# Altium schematic symbol library разъёмы.SchLib: 135 symbols (part 1 of 2)
Pins are listed as number, name and electrical type; pins without a type are passive.

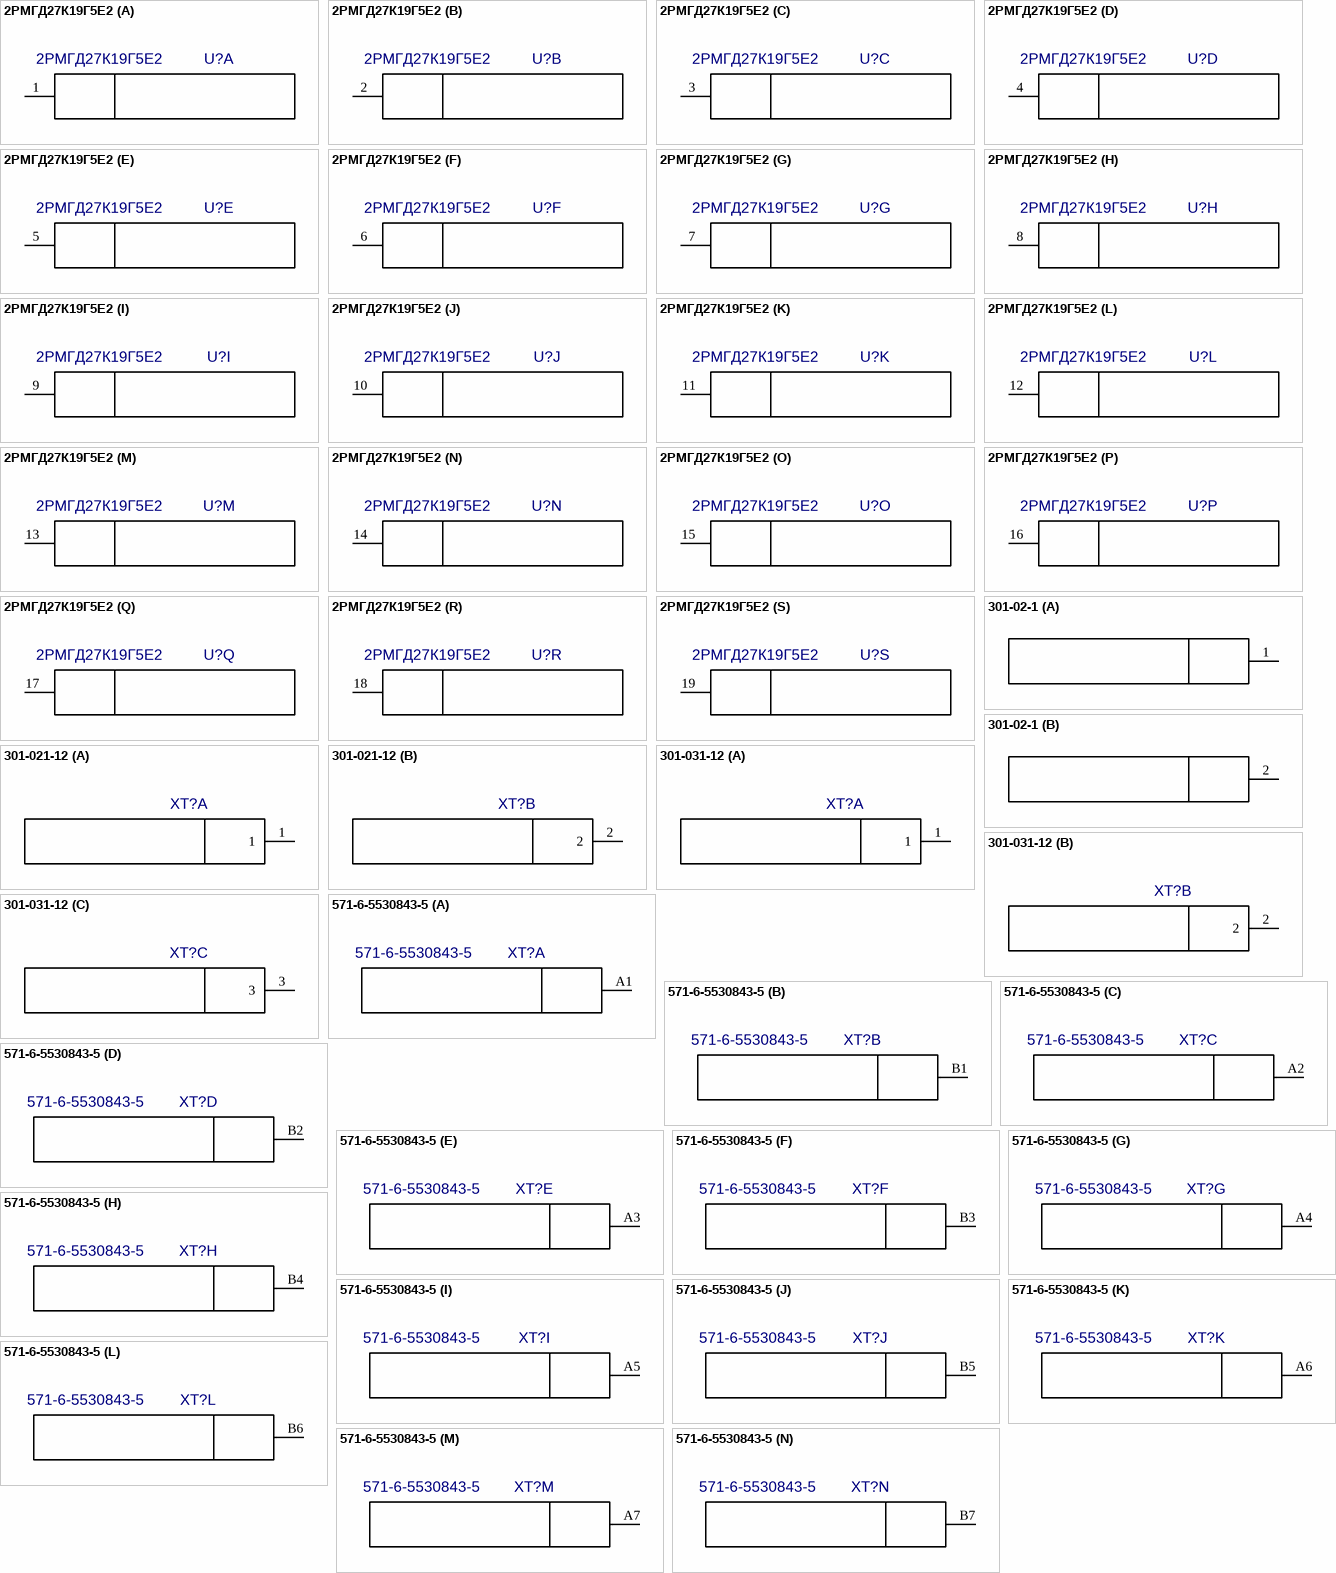
[diagram p0: symbols 2РМГД27К19Г5Е2 to 571-6-5530843-5]

## 2РМГД27К19Г5Е2
designator U?
Value: *
part A pins: 1
part B pins: 2
part C pins: 3
part D pins: 4
part E pins: 5
part F pins: 6
part G pins: 7
part H pins: 8
part I pins: 9
part J pins: 10
part K pins: 11
part L pins: 12
part M pins: 13
part N pins: 14
part O pins: 15
part P pins: 16
part Q pins: 17
part R pins: 18
part S pins: 19

## 301-02-1
designator XT?  (value not drawn)
Value: *
footprint 301-02-1
part A pins: 1
part B pins: 2

## 301-021-12
designator XT?, comment XY301VA-5.0-2P-12  (value not drawn)
Клеммник винтовой, 2-контактный, 5мм, прямой; Value: XY301VA-5.0-2P-12
footprint 301-021-12 (XY301VA-5.0-2P-12, Клеммник винтовой, 2-контактный, 5мм, прямой)
part A pins: 1
part B pins: 2

## 301-031-12
designator XT?, comment XY301VA-5.0-3P-12  (value not drawn)
Клеммник винтовой, 3-контактный, 5мм, прямой; Value: *
footprint 301-031-12 (XY301VA-5.0-3P-12, Клеммник винтовой, 3-контактный, 5мм, прямой)
part A pins: 1
part B pins: 2
part C pins: 3

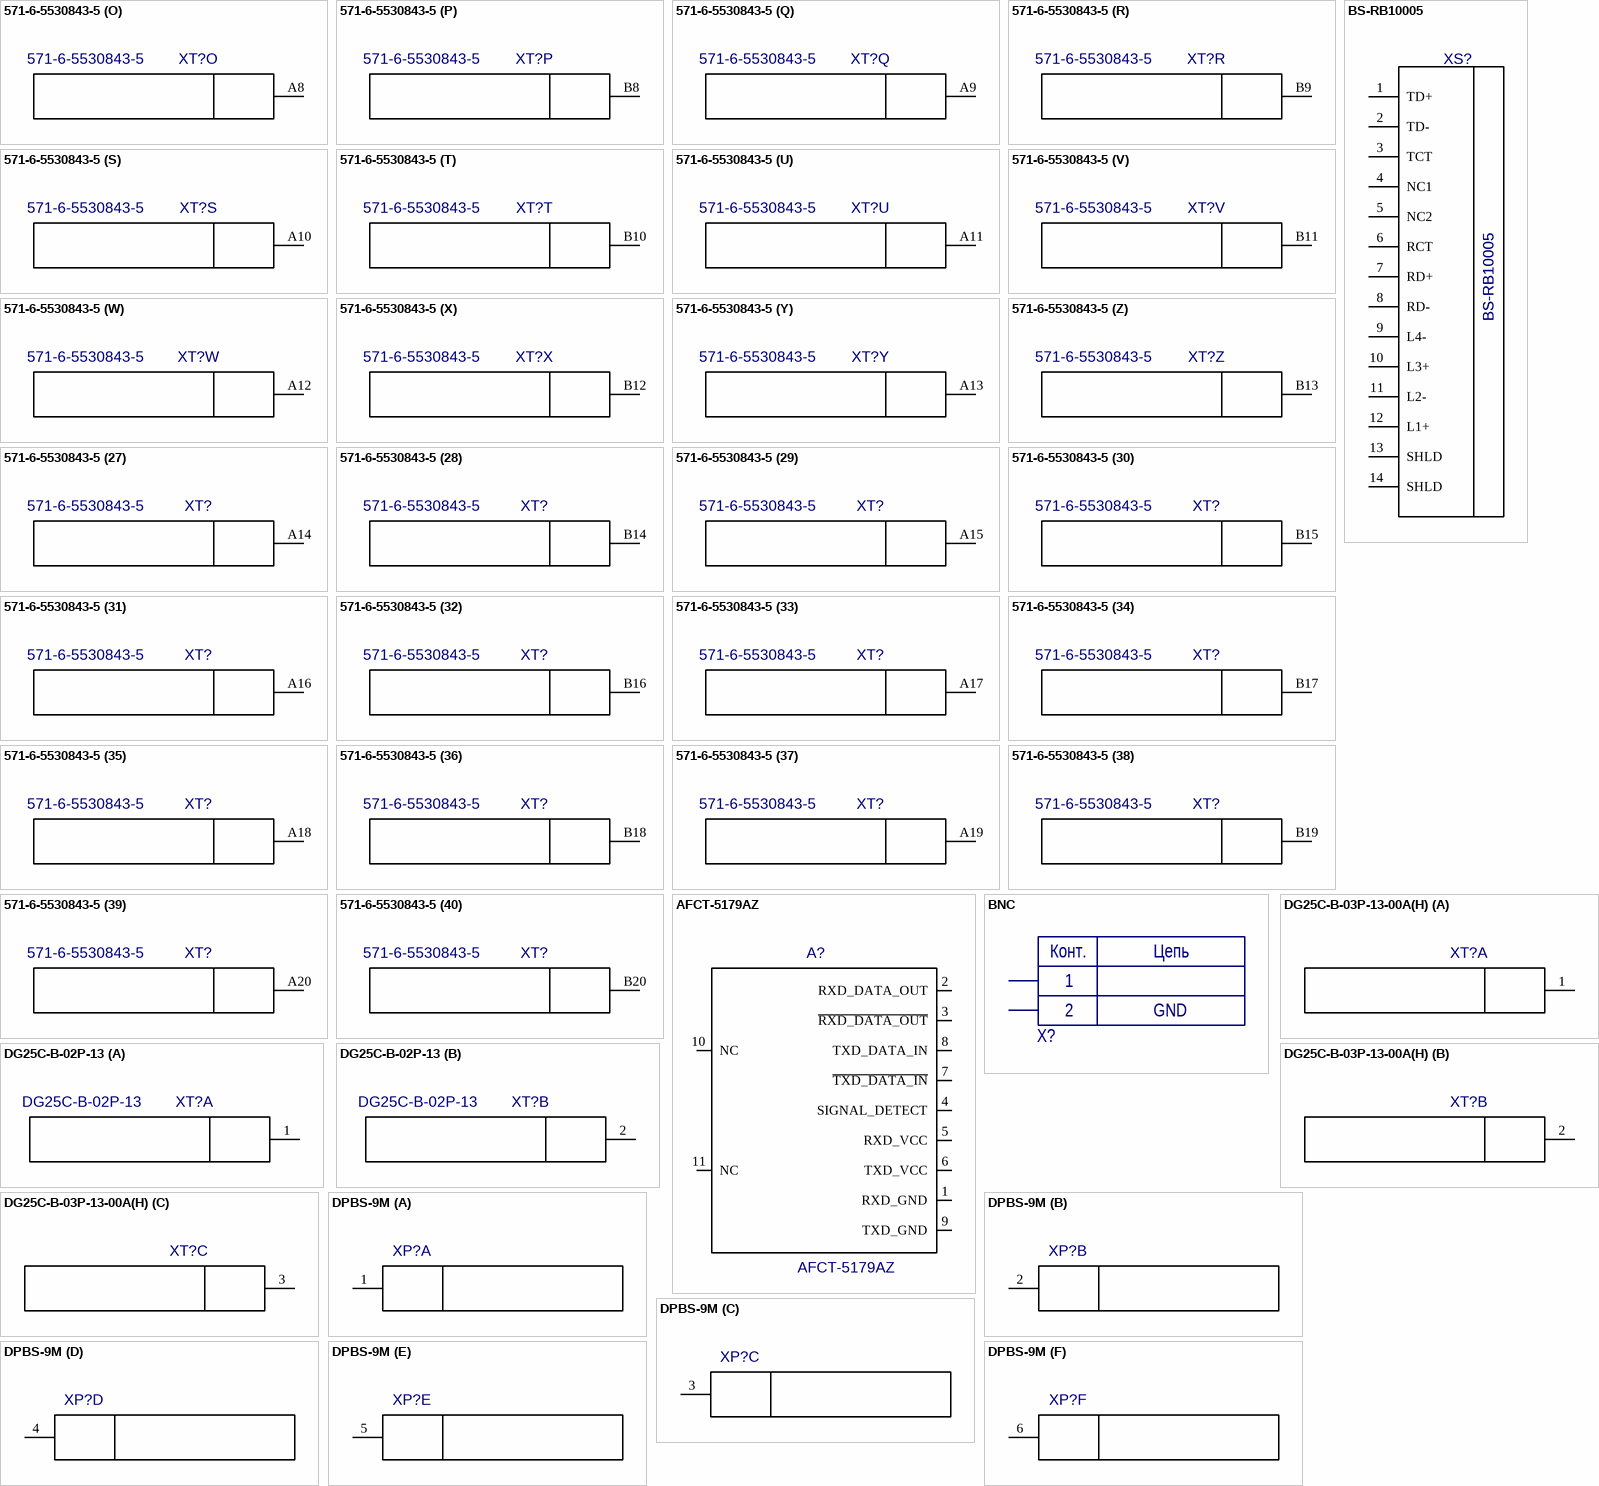
[diagram p1: symbols 571-6-5530843-5 to DPBS-9M]

## 571-6-5530843-5
designator XT?
Value: *
footprint 571-6-5530843-5
part A pins: A1
part B pins: B1
part C pins: A2
part D pins: B2
part E pins: A3
part F pins: B3
part G pins: A4
part H pins: B4
part I pins: A5
part J pins: B5
part K pins: A6
part L pins: B6
part M pins: A7
part N pins: B7
part O pins: A8
part P pins: B8
part Q pins: A9
part R pins: B9
part S pins: A10
part T pins: B10
part U pins: A11
part V pins: B11
part W pins: A12
part X pins: B12
part Y pins: A13
part Z pins: B13
part 27 pins: A14
part 28 pins: B14
part 29 pins: A15
part 30 pins: B15
part 31 pins: A16
part 32 pins: B16
part 33 pins: A17
part 34 pins: B17
part 35 pins: A18
part 36 pins: B18
part 37 pins: A19
part 38 pins: B19
part 39 pins: A20
part 40 pins: B20
part 41 pins: A21
part 42 pins: B21
part 43 pins: A22
part 44 pins: B22
part 45 pins: A23
part 46 pins: B23
part 47 pins: A24
part 48 pins: B24
part 49 pins: A25
part 50 pins: B25
part 51 pins: A26
part 52 pins: B26
part 53 pins: A27
part 54 pins: B27
part 55 pins: A28
part 56 pins: B28
part 57 pins: A29
part 58 pins: B29
part 59 pins: A30
part 60 pins: B30
part 61 pins: A31
part 62 pins: B31

## AFCT-5179AZ
designator A?
Value: *
footprint AFCT-5179AZ
pins: 1 RXD_GND, 2 RXD_DATA_OUT, 3 ~{RXD_DATA_OUT}, 4 SIGNAL_DETECT, 5 RXD_VCC, 6 TXD_VCC, 7 ~{TXD_DATA_IN}, 8 TXD_DATA_IN, 9 TXD_GND, 10 NC, 11 NC

## BNC
designator X?  (value not drawn)
Cell: *; Manufacturer: *; ManufacturerPartNumber: BNC; Value: *; Tolerance: *; Current: *; Voltage: *; Power: *
footprint BNC
pins: 1, 2
text: Конт.; Цепь; GND

## BS-RB10005
designator XS?
Value: BS-RB10005
footprint BS-RB10005
pins: 1 TD+, 2 TD-, 3 TCT, 4 NC1, 5 NC2, 6 RCT, 7 RD+, 8 RD-, 9 L4-, 10 L3+, 11 L2-, 12 L1+, 13 SHLD, 14 SHLD, 15 hidden, 16 hidden

## DG25C-B-02P-13
designator XT?
Value: *
footprint DG25C-B-02P-13
part A pins: 1
part B pins: 2

## DG25C-B-03P-13-00A(H)
designator XT?  (value not drawn)
Value: *
footprint DG25C-B-03P-13-00A(H)
part A pins: 1
part B pins: 2
part C pins: 3

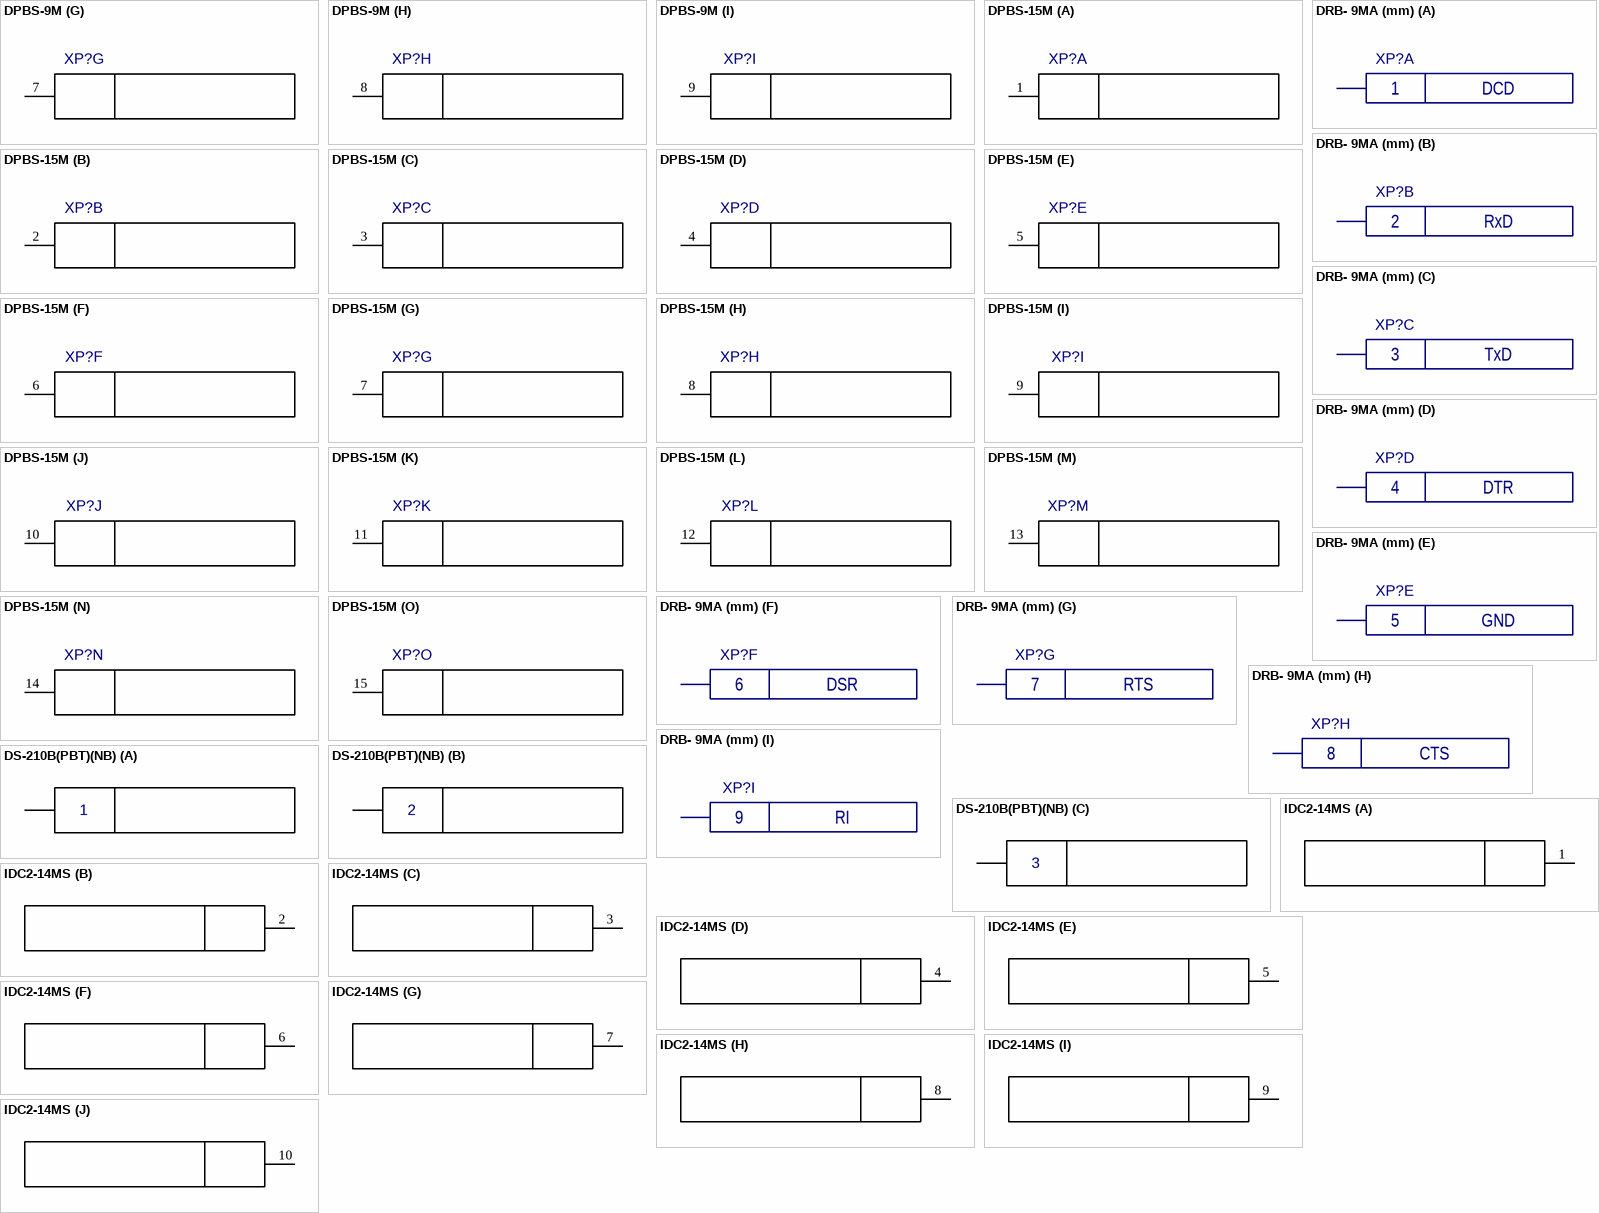
[diagram p2: symbols DPBS-9M to IDC2-14MS]

## DPBS-9M
designator XP?  (value not drawn)
Value: *
footprint DPBS-9M
pins on every part: Dummy1 hidden, Dummy2 hidden
part A pins: 1
part B pins: 2
part C pins: 3
part D pins: 4
part E pins: 5
part F pins: 6
part G pins: 7
part H pins: 8
part I pins: 9

## DPBS-15M
designator XP?  (value not drawn)
Value: *
footprint DPBS-15M
pins on every part: Dummy1 hidden, Dummy2 hidden
part A pins: 1
part B pins: 2
part C pins: 3
part D pins: 4
part E pins: 5
part F pins: 6
part G pins: 7
part H pins: 8
part I pins: 9
part J pins: 10
part K pins: 11
part L pins: 12
part M pins: 13
part N pins: 14
part O pins: 15

## DRB- 9MA (mm)
designator XP?, comment DRB- 9MA  (value not drawn)
Value: DRB- 9MA
footprint DRB- 9MA
pins on every part: Dummy1 hidden, Dummy2 hidden
part A pins: 1
part B pins: 2
part C pins: 3
part D pins: 4
part E pins: 5
part F pins: 6
part G pins: 7
part H pins: 8
part I pins: 9
part A text: DCD
part B text: RxD
part C text: TxD
part D text: DTR
part E text: GND
part F text: DSR
part G text: RTS
part H text: CTS
part I text: RI

## DS-210B(PBT)(NB)
designator XS?  (value not drawn)
Гнездо питания 2,1х5,5мм на панель; Value: DS-210B(PBT)(NB)
footprint DS-210B(PBT)(NB) (DS-210, Гнездо питания 2,1х5,5мм на панель)
part A pins: 1 Штыревой контакт
part B pins: 2 Размыкающийся контакт
part C pins: 3 Цилиндрич. контакт

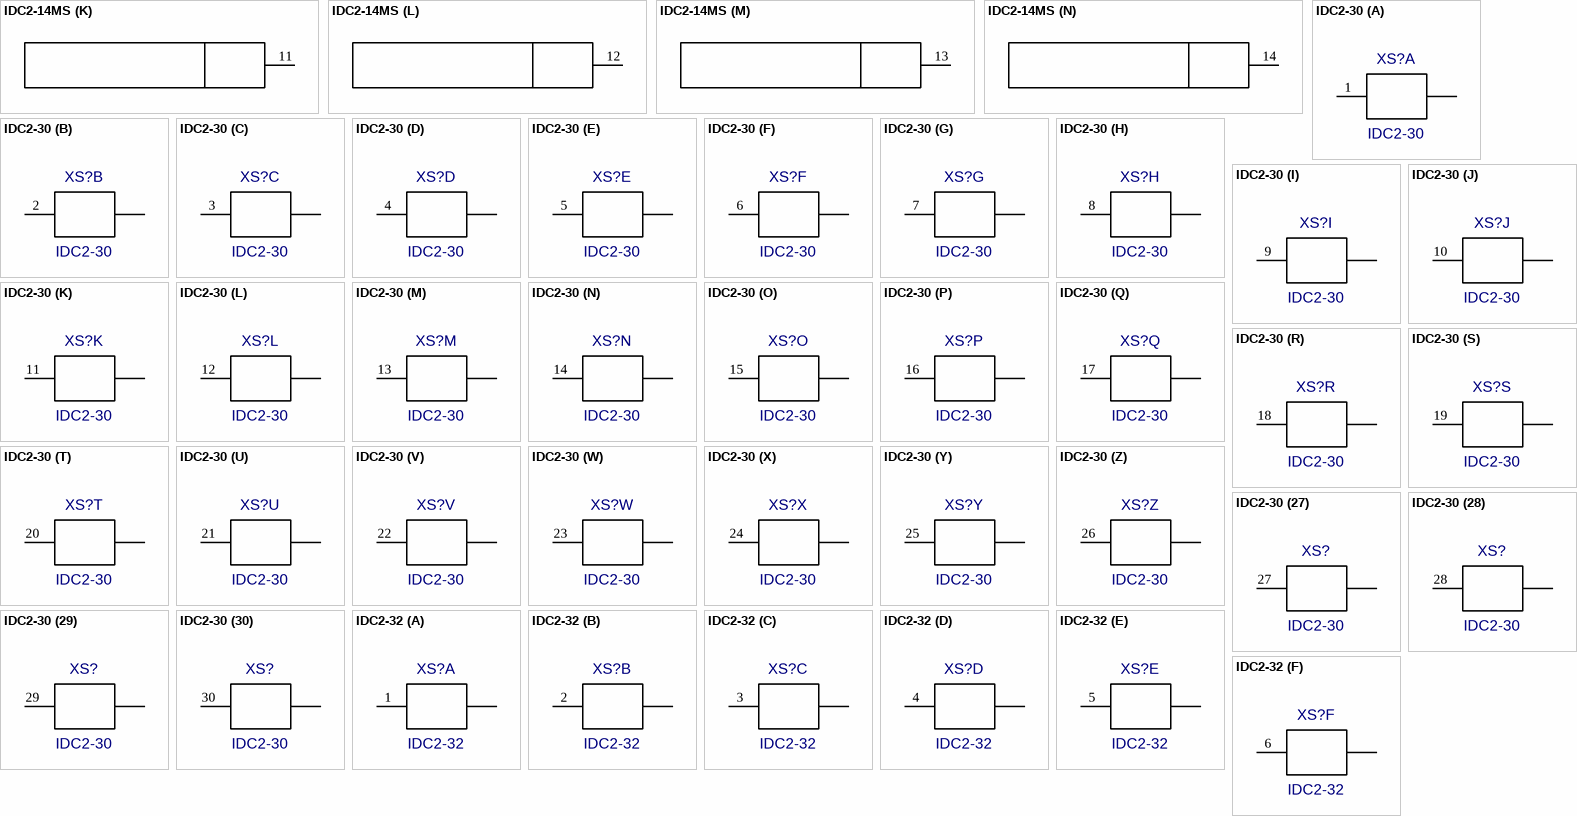
[diagram p3: symbols IDC2-14MS to IDC2-32]

## IDC2-14MS
designator XP?  (value not drawn)
2x7, шаг 2.0 мм; Value: IDC2-14MS
footprint IDC2-14MS (2x7, шаг 2.0 мм)
part A pins: 1
part B pins: 2
part C pins: 3
part D pins: 4
part E pins: 5
part F pins: 6
part G pins: 7
part H pins: 8
part I pins: 9
part J pins: 10
part K pins: 11
part L pins: 12
part M pins: 13
part N pins: 14

## IDC2-30
designator XS?
Value: *
part A pins: 1
part B pins: 2
part C pins: 3
part D pins: 4
part E pins: 5
part F pins: 6
part G pins: 7
part H pins: 8
part I pins: 9
part J pins: 10
part K pins: 11
part L pins: 12
part M pins: 13
part N pins: 14
part O pins: 15
part P pins: 16
part Q pins: 17
part R pins: 18
part S pins: 19
part T pins: 20
part U pins: 21
part V pins: 22
part W pins: 23
part X pins: 24
part Y pins: 25
part Z pins: 26
part 27 pins: 27
part 28 pins: 28
part 29 pins: 29
part 30 pins: 30

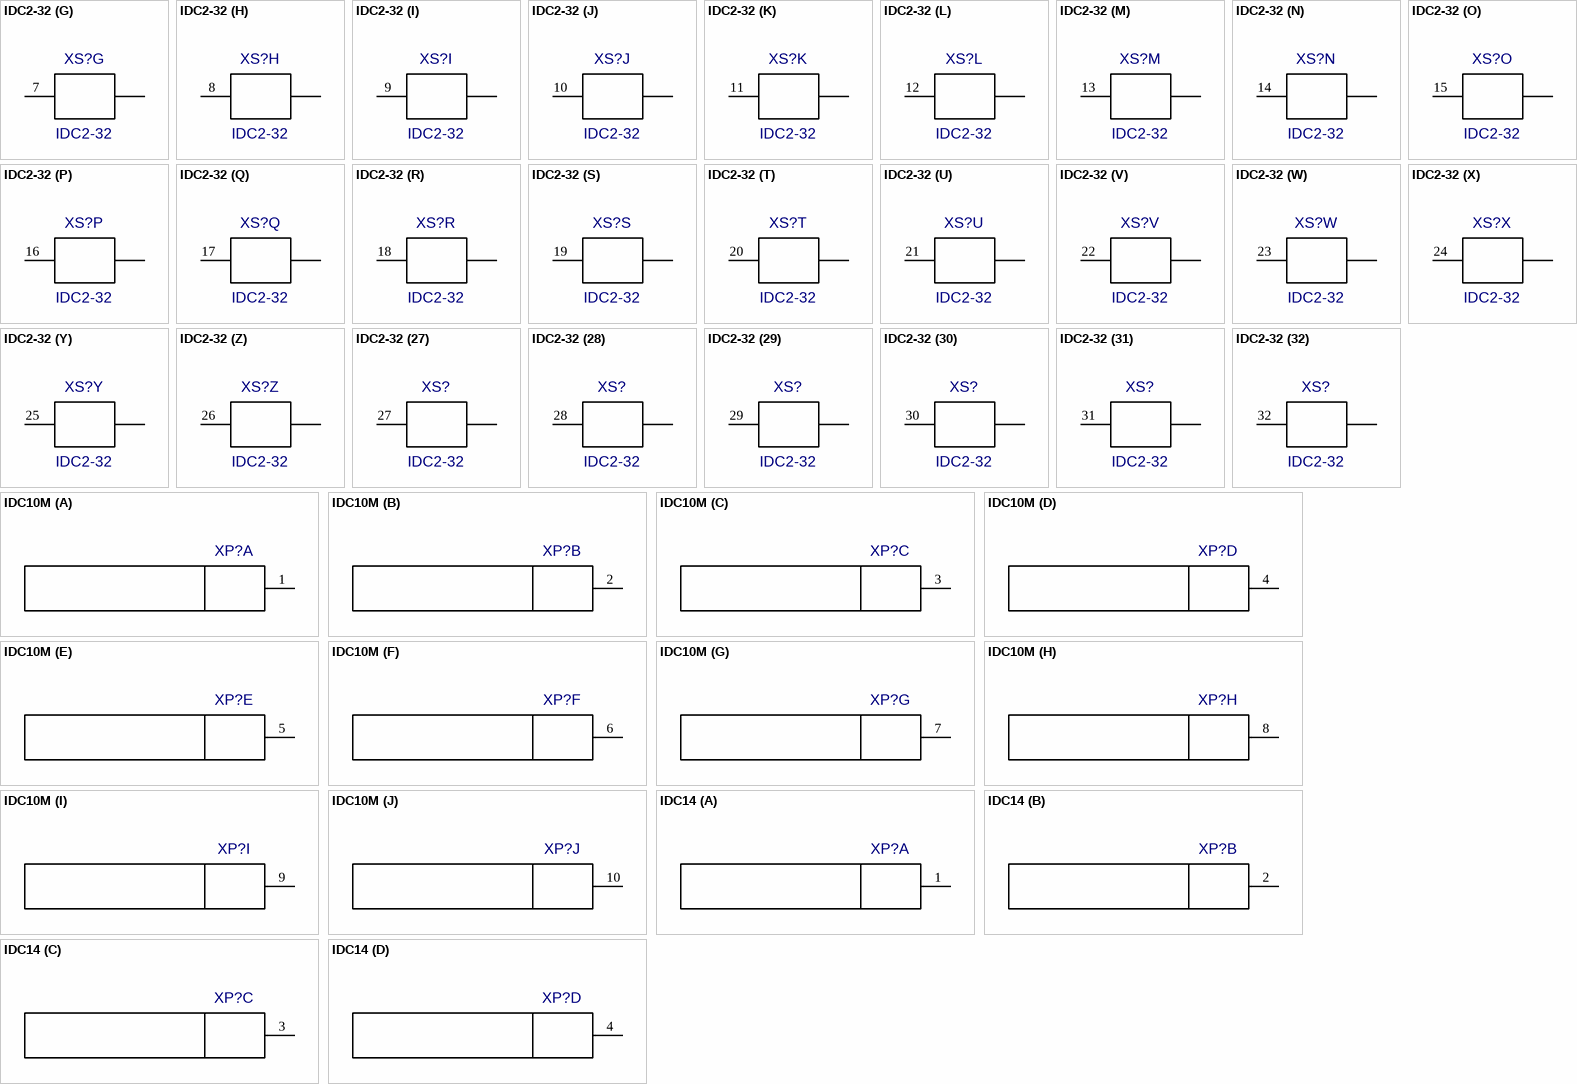
[diagram p4: symbols IDC2-32 to IDC14]

## IDC2-32
designator XS?
Value: *
part A pins: 1
part B pins: 2
part C pins: 3
part D pins: 4
part E pins: 5
part F pins: 6
part G pins: 7
part H pins: 8
part I pins: 9
part J pins: 10
part K pins: 11
part L pins: 12
part M pins: 13
part N pins: 14
part O pins: 15
part P pins: 16
part Q pins: 17
part R pins: 18
part S pins: 19
part T pins: 20
part U pins: 21
part V pins: 22
part W pins: 23
part X pins: 24
part Y pins: 25
part Z pins: 26
part 27 pins: 27
part 28 pins: 28
part 29 pins: 29
part 30 pins: 30
part 31 pins: 31
part 32 pins: 32

## IDC10M
designator XP?  (value not drawn)
Value: *
footprint IDC10M
part A pins: 1
part B pins: 2
part C pins: 3
part D pins: 4
part E pins: 5
part F pins: 6
part G pins: 7
part H pins: 8
part I pins: 9
part J pins: 10

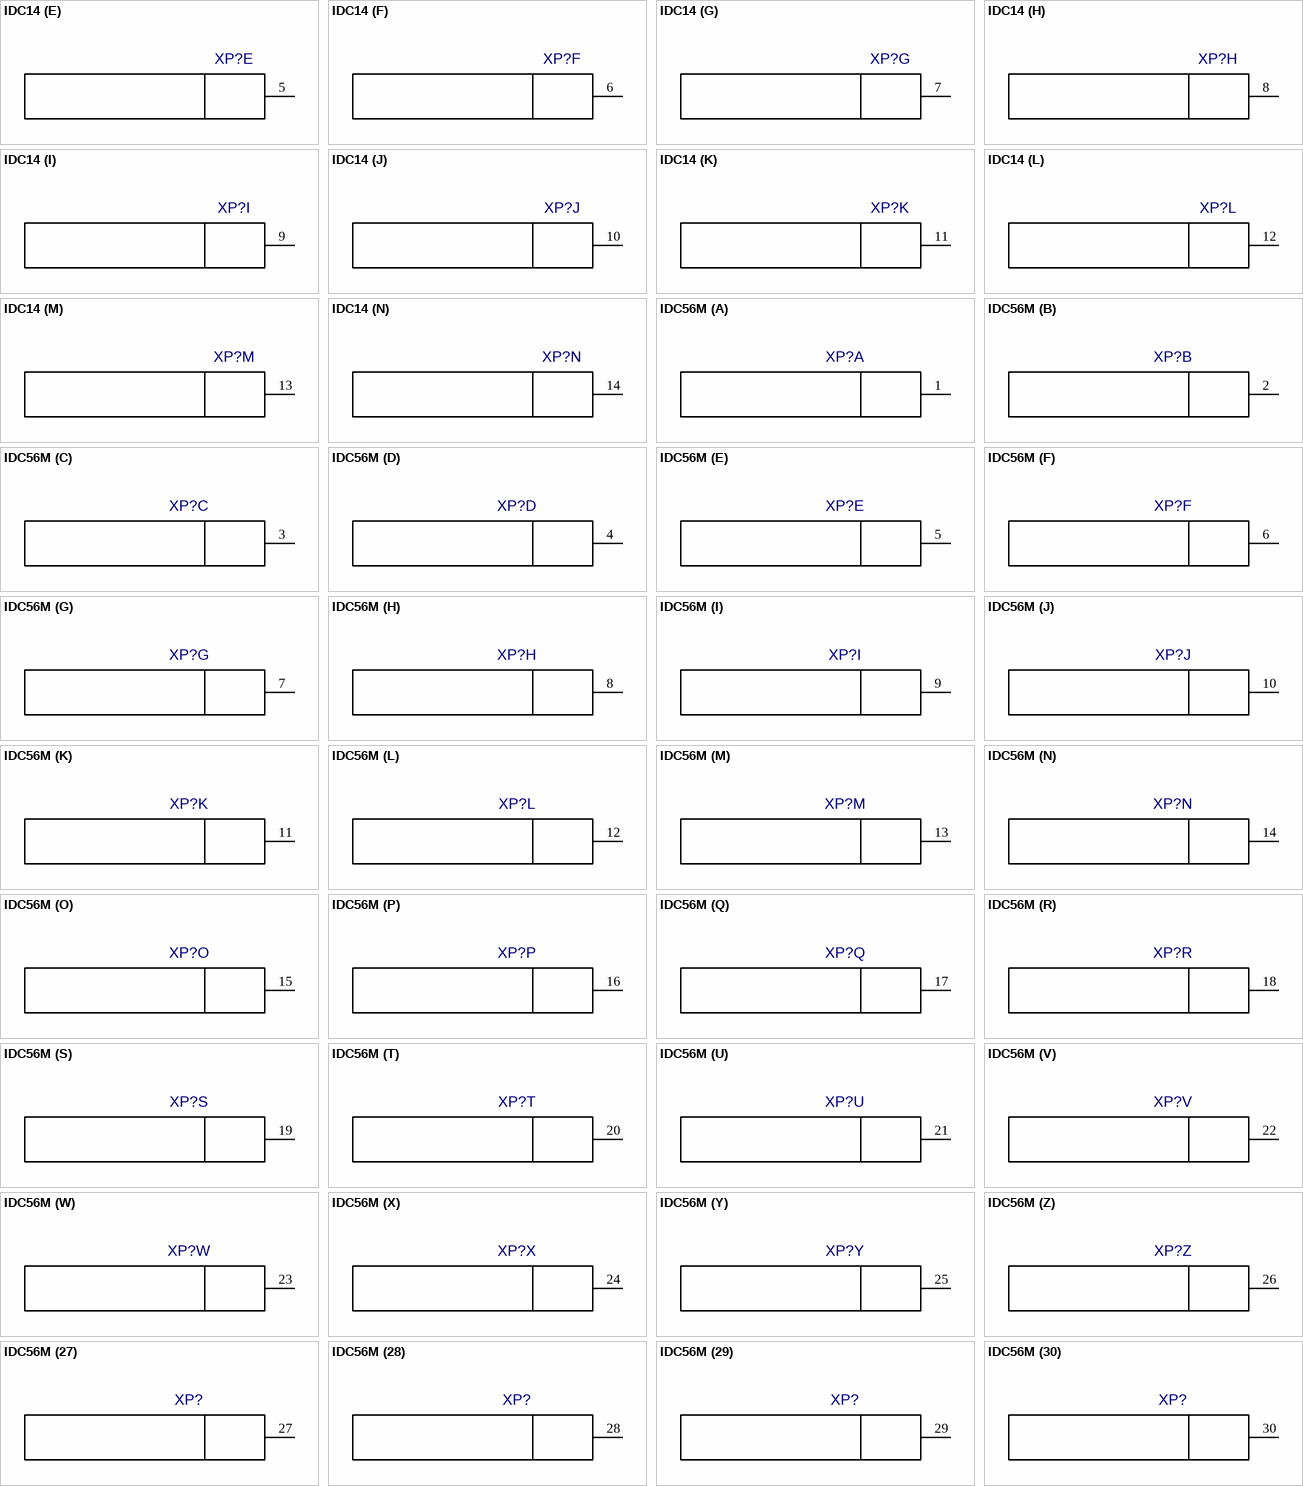
[diagram p5: symbols IDC14 to IDC56M]

## IDC14
designator XP?  (value not drawn)
Value: *
footprint IDC14M
part A pins: 1
part B pins: 2
part C pins: 3
part D pins: 4
part E pins: 5
part F pins: 6
part G pins: 7
part H pins: 8
part I pins: 9
part J pins: 10
part K pins: 11
part L pins: 12
part M pins: 13
part N pins: 14

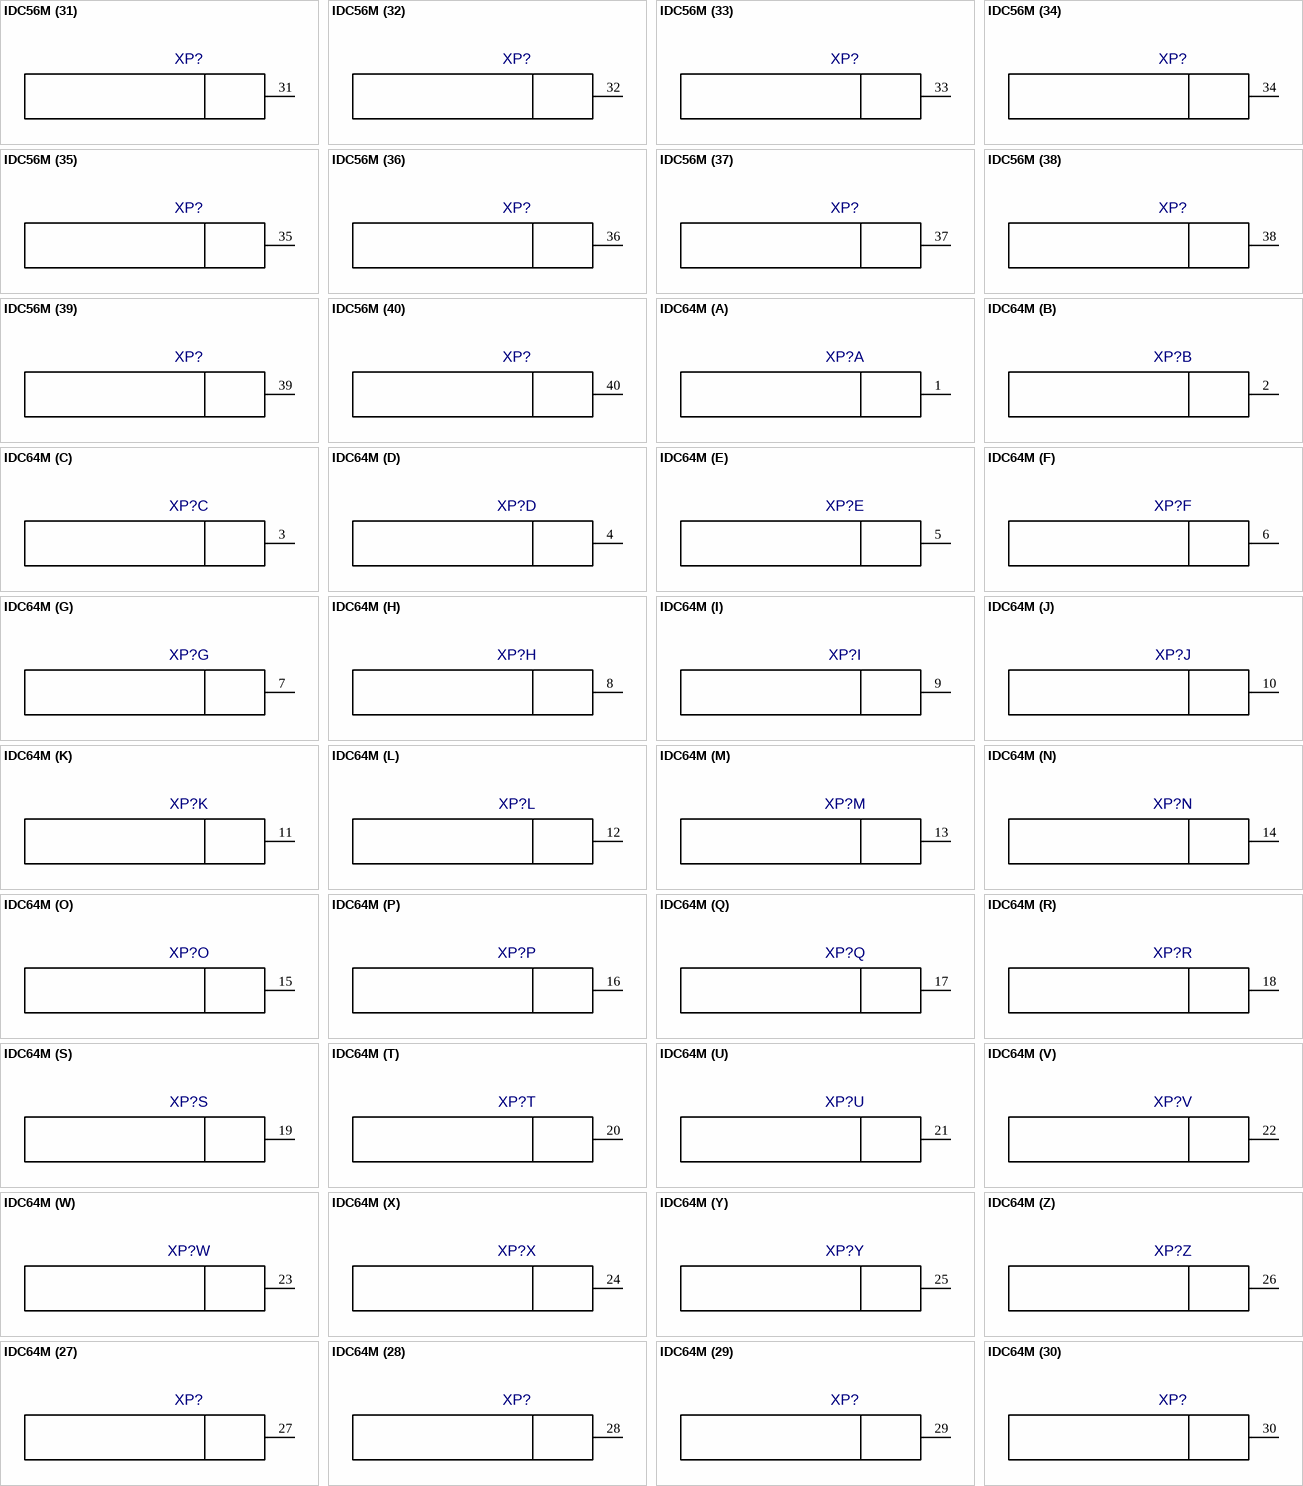
[diagram p6: symbols IDC56M to IDC64M]

## IDC56M
designator XP?  (value not drawn)
Value: *
footprint IDC56M
part A pins: 1
part B pins: 2
part C pins: 3
part D pins: 4
part E pins: 5
part F pins: 6
part G pins: 7
part H pins: 8
part I pins: 9
part J pins: 10
part K pins: 11
part L pins: 12
part M pins: 13
part N pins: 14
part O pins: 15
part P pins: 16
part Q pins: 17
part R pins: 18
part S pins: 19
part T pins: 20
part U pins: 21
part V pins: 22
part W pins: 23
part X pins: 24
part Y pins: 25
part Z pins: 26
part 27 pins: 27
part 28 pins: 28
part 29 pins: 29
part 30 pins: 30
part 31 pins: 31
part 32 pins: 32
part 33 pins: 33
part 34 pins: 34
part 35 pins: 35
part 36 pins: 36
part 37 pins: 37
part 38 pins: 38
part 39 pins: 39
part 40 pins: 40
part 41 pins: 41
part 42 pins: 42
part 43 pins: 43
part 44 pins: 44
part 45 pins: 45
part 46 pins: 46
part 47 pins: 47
part 48 pins: 48
part 49 pins: 49
part 50 pins: 50
part 51 pins: 51
part 52 pins: 52
part 53 pins: 53
part 54 pins: 54
part 55 pins: 55
part 56 pins: 56

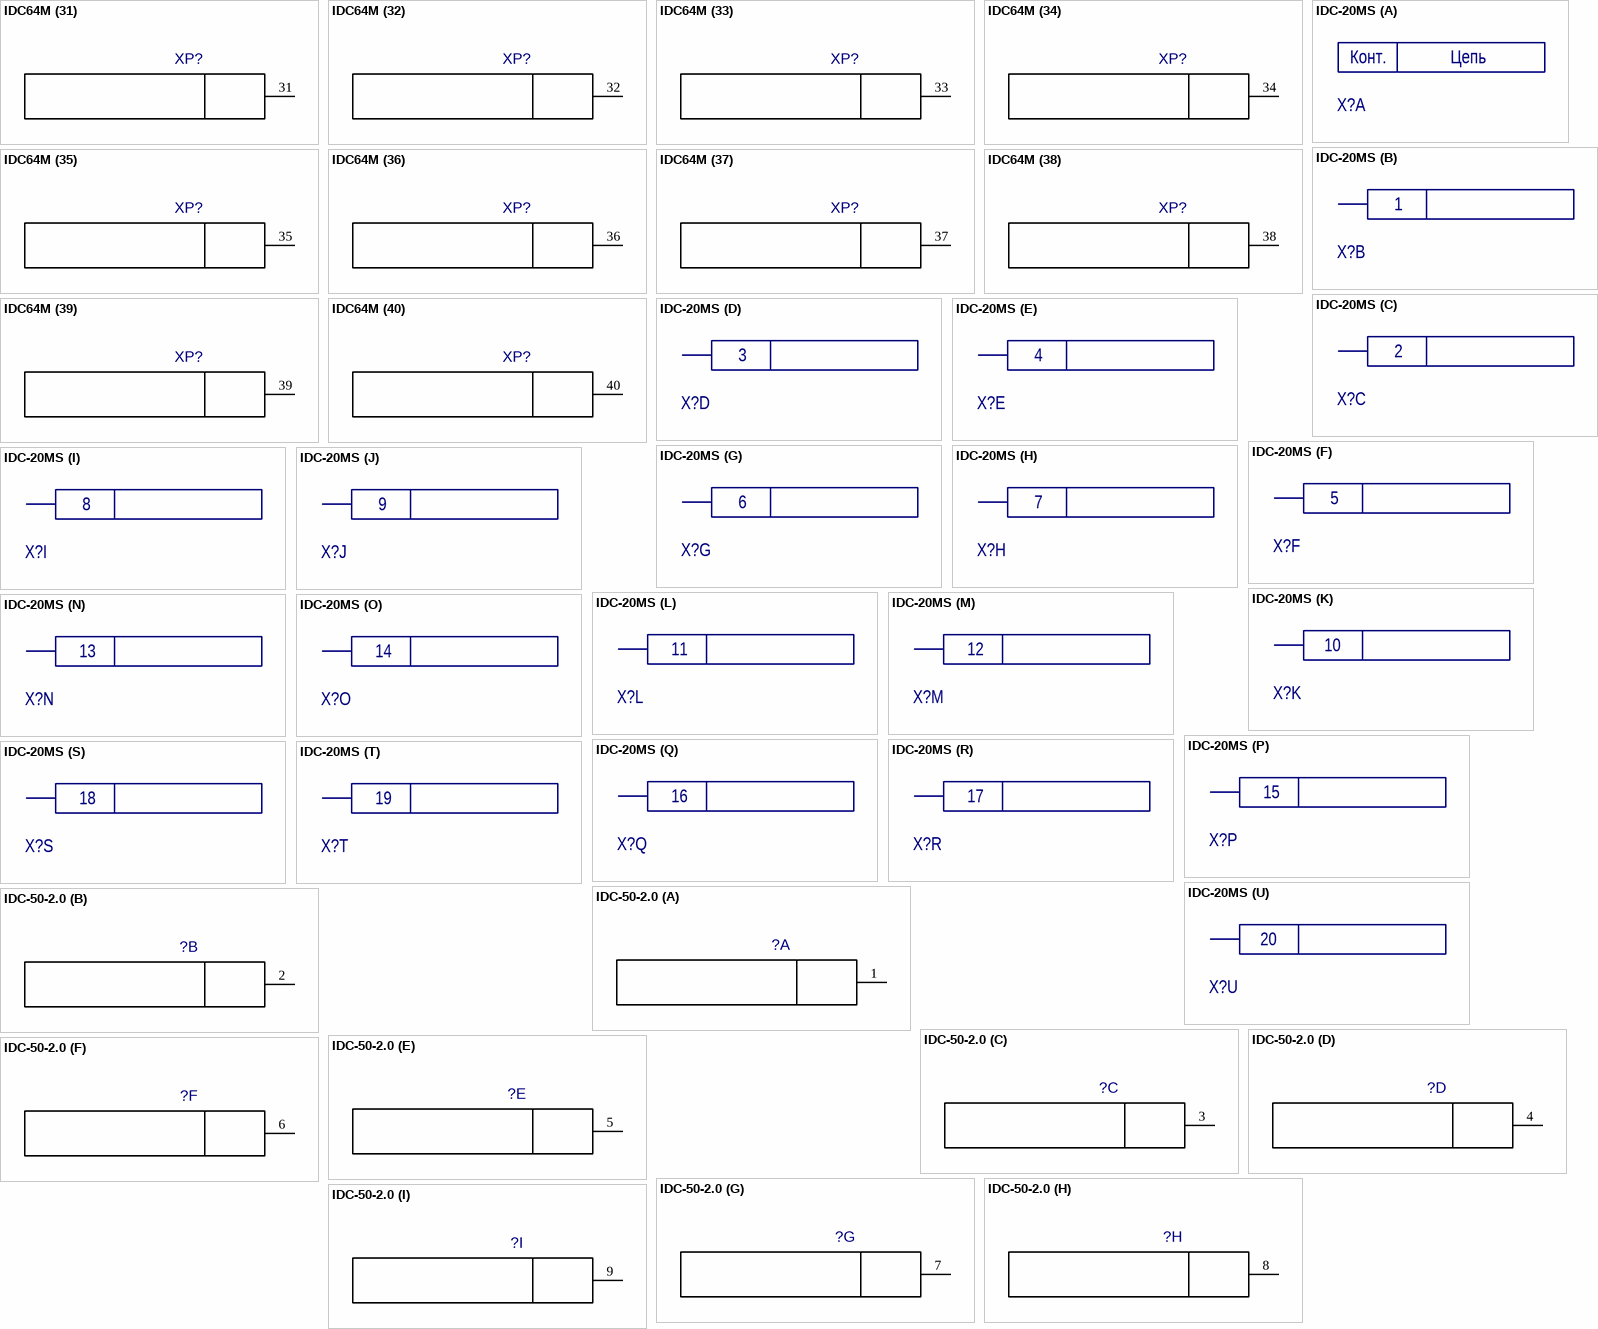
[diagram p7: symbols IDC64M to IDC-50-2.0]

## IDC64M
designator XP?  (value not drawn)
Value: *
footprint IDC64M
part A pins: 1
part B pins: 2
part C pins: 3
part D pins: 4
part E pins: 5
part F pins: 6
part G pins: 7
part H pins: 8
part I pins: 9
part J pins: 10
part K pins: 11
part L pins: 12
part M pins: 13
part N pins: 14
part O pins: 15
part P pins: 16
part Q pins: 17
part R pins: 18
part S pins: 19
part T pins: 20
part U pins: 21
part V pins: 22
part W pins: 23
part X pins: 24
part Y pins: 25
part Z pins: 26
part 27 pins: 27
part 28 pins: 28
part 29 pins: 29
part 30 pins: 30
part 31 pins: 31
part 32 pins: 32
part 33 pins: 33
part 34 pins: 34
part 35 pins: 35
part 36 pins: 36
part 37 pins: 37
part 38 pins: 38
part 39 pins: 39
part 40 pins: 40
part 41 pins: 41
part 42 pins: 42
part 43 pins: 43
part 44 pins: 44
part 45 pins: 45
part 46 pins: 46
part 47 pins: 47
part 48 pins: 48
part 49 pins: 49
part 50 pins: 50
part 51 pins: 51
part 52 pins: 52
part 53 pins: 53
part 54 pins: 54
part 55 pins: 55
part 56 pins: 56
part 57 pins: 57
part 58 pins: 58
part 59 pins: 59
part 60 pins: 60
part 61 pins: 61
part 62 pins: 62
part 63 pins: 63
part 64 pins: 64

## IDC-20MS
designator X?  (value not drawn)
Manufacturer: Connfly Electronic; Cell: *; Current: *; Power: *; Value: *; Tolerance: *; Voltage: *; ManufacturerPartNumber: IDC-20MS
footprint IDC-20MS
part A pins: 0
part B pins: 1
part C pins: 2
part D pins: 3
part E pins: 4
part F pins: 5
part G pins: 6
part H pins: 7
part I pins: 8
part J pins: 9
part K pins: 10
part L pins: 11
part M pins: 12
part N pins: 13
part O pins: 14
part P pins: 15
part Q pins: 16
part R pins: 17
part S pins: 18
part T pins: 19
part U pins: 20
part A text: Конт.; Цепь

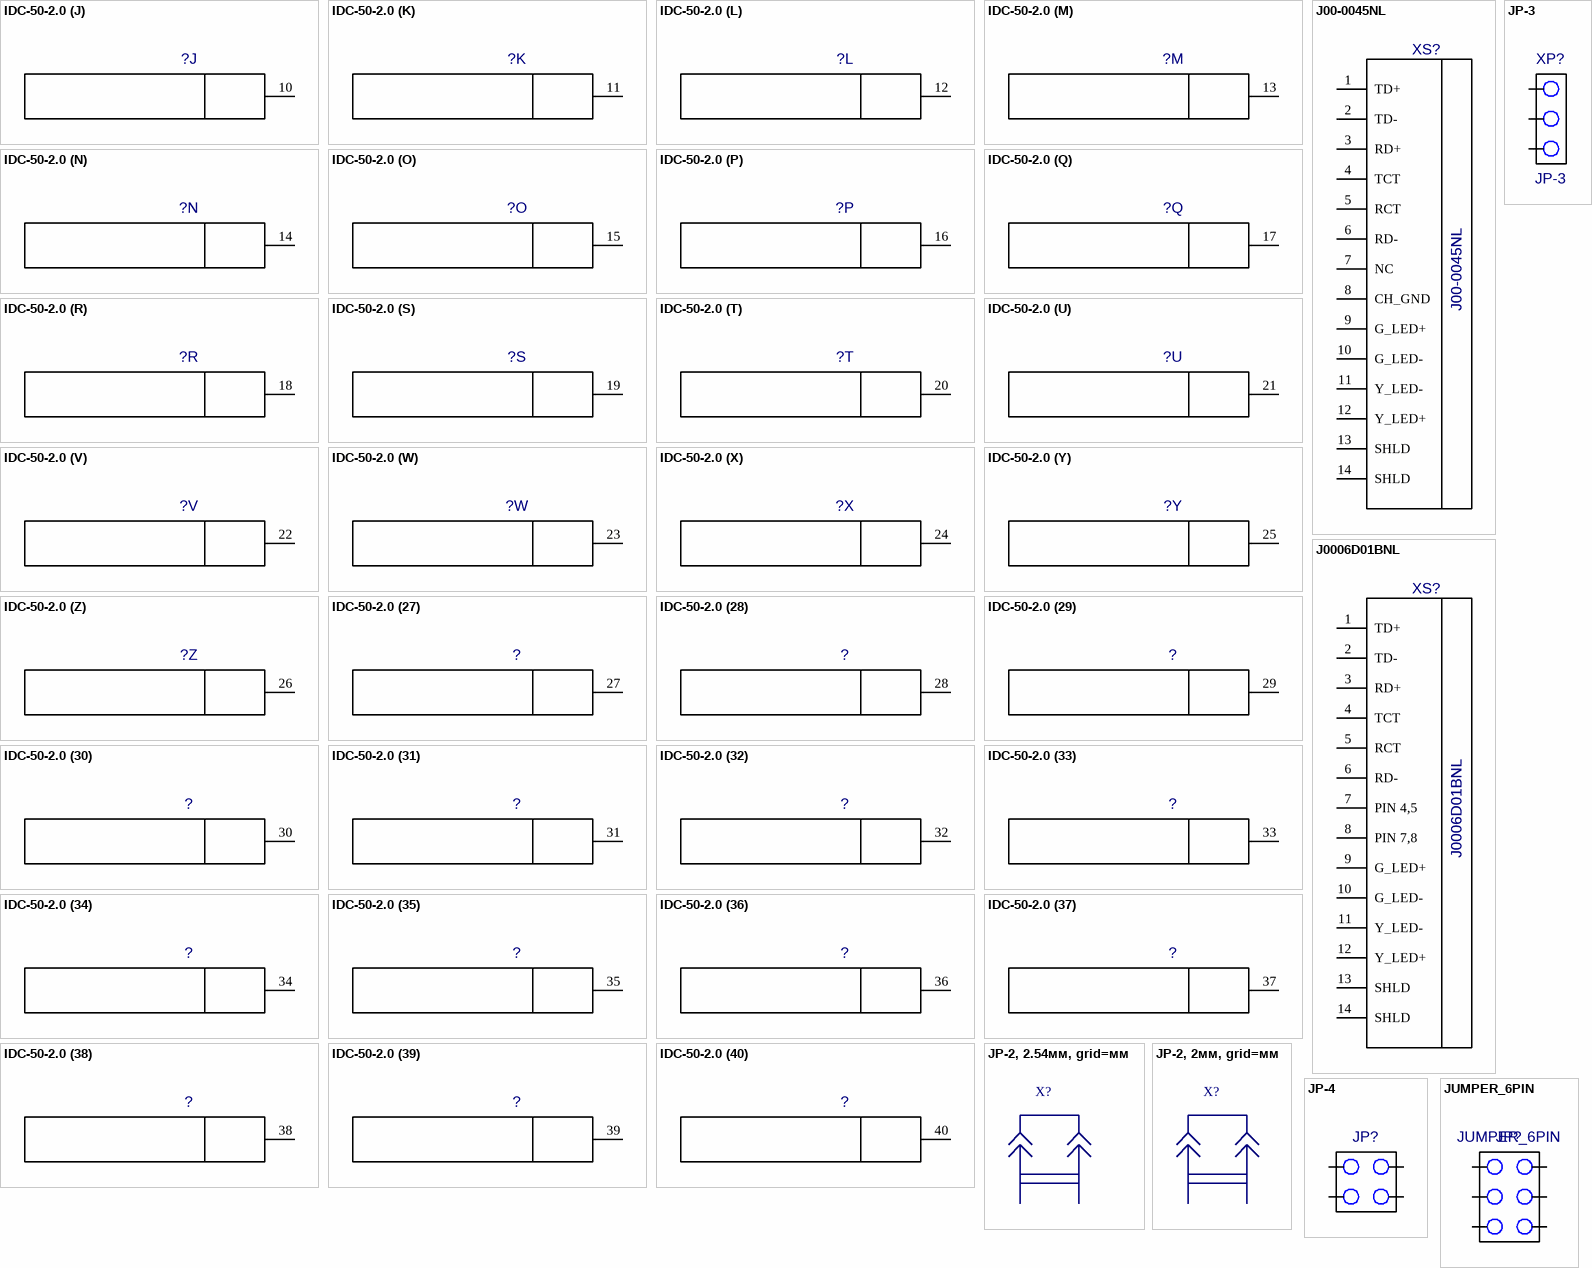
[diagram p8: symbols IDC-50-2.0 to JUMPER_6PIN]

## IDC-50-2.0
designator ?  (value not drawn)
Value: *
footprint IDC-50-2.0
part A pins: 1
part B pins: 2
part C pins: 3
part D pins: 4
part E pins: 5
part F pins: 6
part G pins: 7
part H pins: 8
part I pins: 9
part J pins: 10
part K pins: 11
part L pins: 12
part M pins: 13
part N pins: 14
part O pins: 15
part P pins: 16
part Q pins: 17
part R pins: 18
part S pins: 19
part T pins: 20
part U pins: 21
part V pins: 22
part W pins: 23
part X pins: 24
part Y pins: 25
part Z pins: 26
part 27 pins: 27
part 28 pins: 28
part 29 pins: 29
part 30 pins: 30
part 31 pins: 31
part 32 pins: 32
part 33 pins: 33
part 34 pins: 34
part 35 pins: 35
part 36 pins: 36
part 37 pins: 37
part 38 pins: 38
part 39 pins: 39
part 40 pins: 40
part 41 pins: 41
part 42 pins: 42
part 43 pins: 43
part 44 pins: 44
part 45 pins: 45
part 46 pins: 46
part 47 pins: 47
part 48 pins: 48
part 49 pins: 49
part 50 pins: 50

## J00-0045NL
designator XS?
Value: J00-0045NL
footprint J00-0045NL
pins: 1 TD+, 2 TD-, 3 RD+, 4 TCT, 5 RCT, 6 RD-, 7 NC, 8 CH_GND, 9 G_LED+, 10 G_LED-, 11 Y_LED-, 12 Y_LED+, 13 SHLD, 14 SHLD, 15 hidden, 16 hidden

## J0006D01BNL
designator XS?
Value: J0006D01BNL
footprint J00-0045NL
pins: 1 TD+, 2 TD-, 3 RD+, 4 TCT, 5 RCT, 6 RD-, 7 PIN 4,5, 8 PIN 7,8, 9 G_LED+, 10 G_LED-, 11 Y_LED-, 12 Y_LED+, 13 SHLD, 14 SHLD, 15 hidden, 16 hidden

## JP-2, 2.54мм, grid=мм
designator X?  (value not drawn)
Value: *
footprint JP-2, 2.54 мм (Перемычка PLS-2 с джампером)
pins: 1 hidden, 1, 2 hidden, 2

## JP-2, 2мм, grid=мм
designator X?  (value not drawn)
Value: *
footprint JP-2, 2 мм (Перемычка PLS2-2 с джампером)
pins: 1 hidden, 1, 2 hidden, 2

## JP-3
designator XP?
Value: *
footprint PLS-3
pins: 1, 2, 3

## JP-4
designator JP?  (value not drawn)
Value: *
footprint JP-4
pins: 1, 2, 3, 4

## JUMPER_6PIN
designator JP?
Value: *
footprint JMP_6PIN
pins: 1, 2, 3, 4, 5, 6

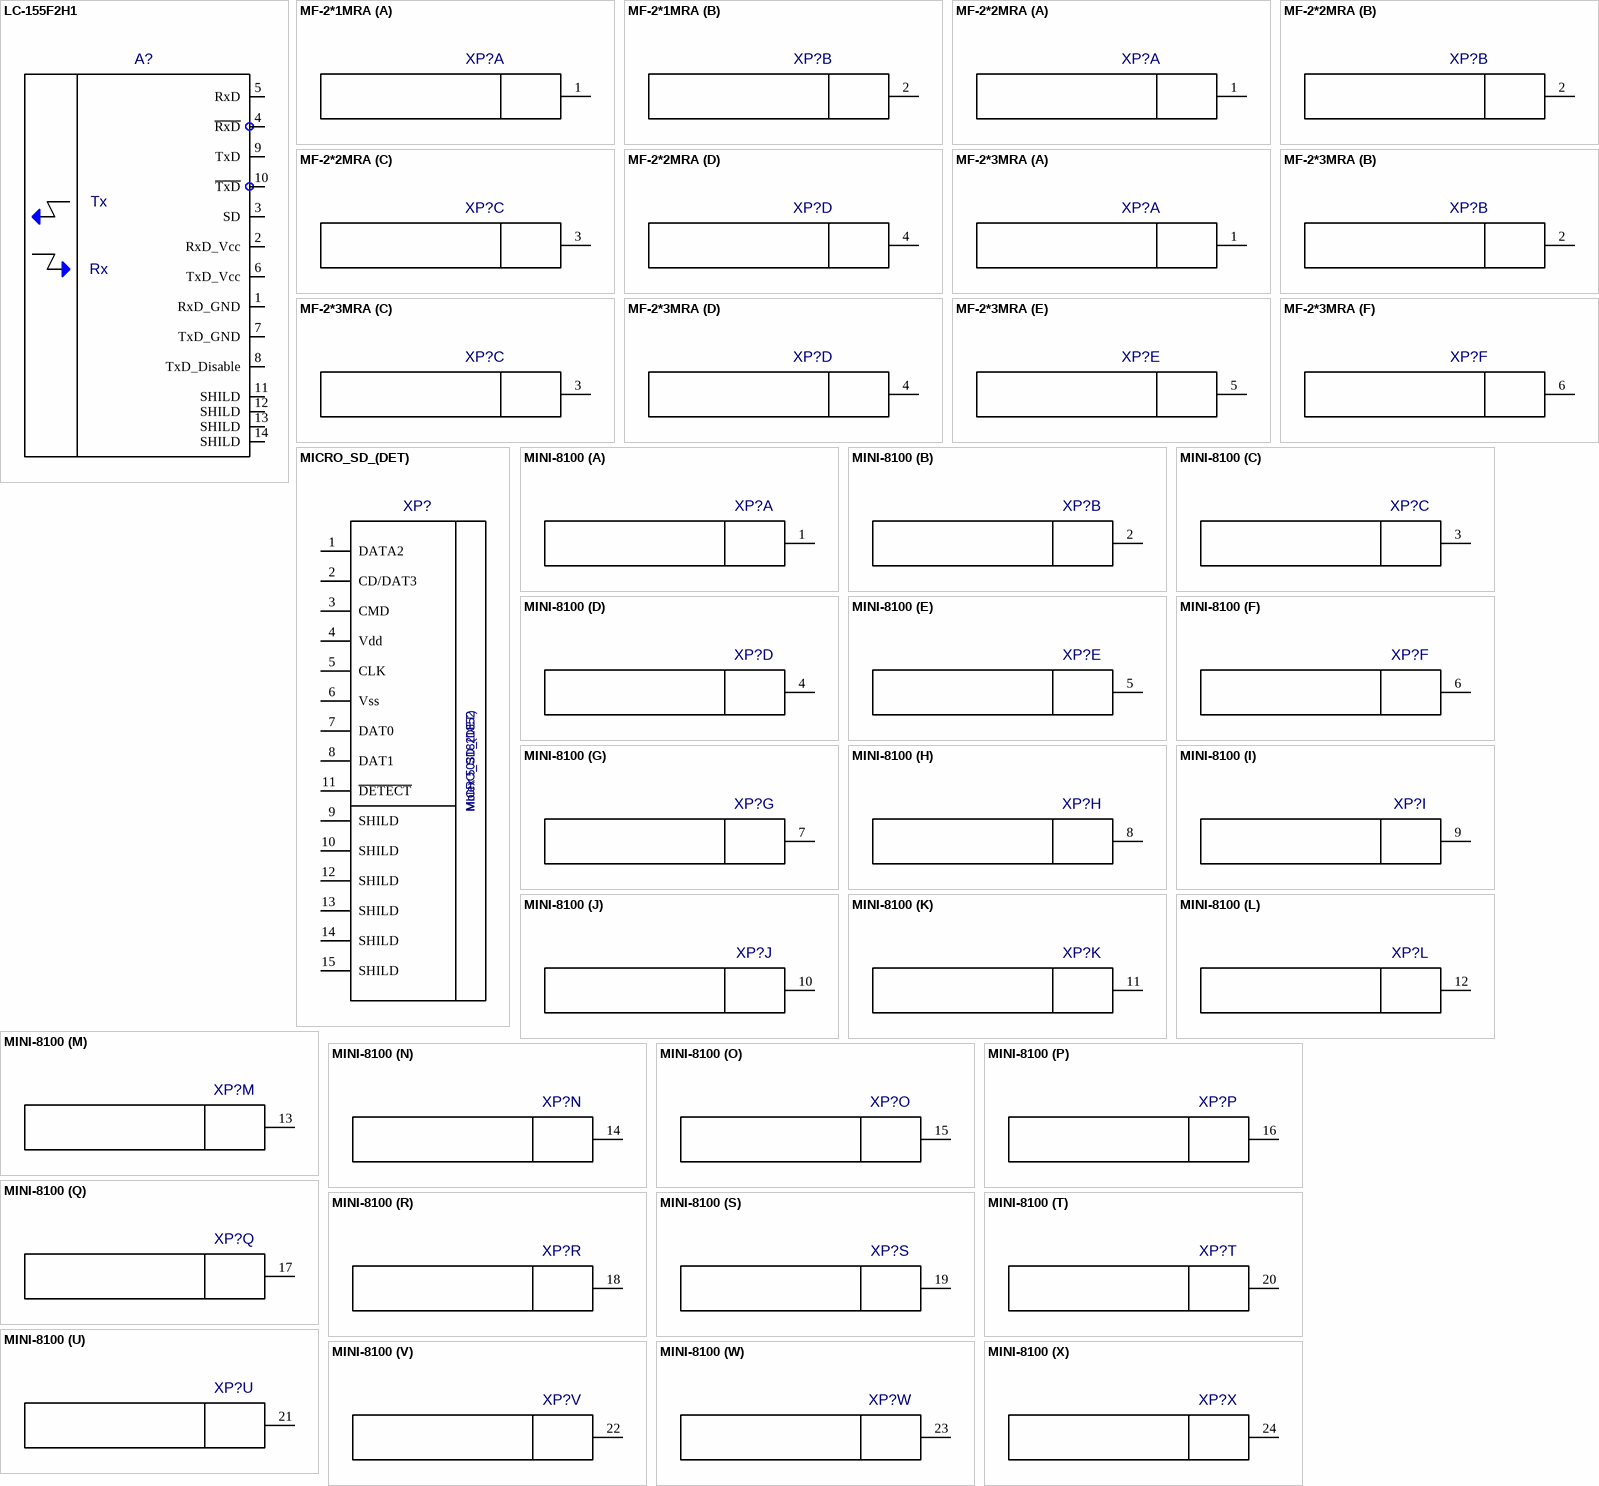
[diagram p9: symbols LC-155F2H1 to MINI-8100]

## LC-155F2H1
designator A?  (value not drawn)
Value: *
footprint LC-155F2H1
pins: 1 RxD_GND, 2 RxD_Vcc, 3 SD, 4 ~{RxD}, 5 RxD, 6 TxD_Vcc, 7 TxD_GND, 8 TxD_Disable, 9 TxD, 10 ~{TxD}, 11 SHILD, 12 SHILD, 13 SHILD, 14 SHILD, 15 hidden, 16 hidden
text: Tx; Rx

## MF-2*1MRA
designator XP?  (value not drawn)
Value: *
footprint MF-2*1MRA
pins on every part: 3 hidden
part A pins: 1
part B pins: 2

## MF-2*2MRA
designator XP?  (value not drawn)
Value: *
footprint MF-2*2MRA
pins on every part: 5 hidden
part A pins: 1
part B pins: 2
part C pins: 3
part D pins: 4

## MF-2*3MRA
designator XP?  (value not drawn)
Value: *
footprint MF-2*3MRA
pins on every part: 7 hidden, 8 hidden
part A pins: 1
part B pins: 2
part C pins: 3
part D pins: 4
part E pins: 5
part F pins: 6

## MICRO_SD_(DET)
designator XP?  value Molex 5031821852
footprint MICRO_SD_(DET)
pins: 1 DATA2, 2 CD/DAT3, 3 CMD, 4 Vdd, 5 CLK, 6 Vss, 7 DAT0, 8 DAT1, 9 SHILD, 10 SHILD, 11 ~{DETECT}, 12 SHILD, 13 SHILD, 14 SHILD, 15 SHILD

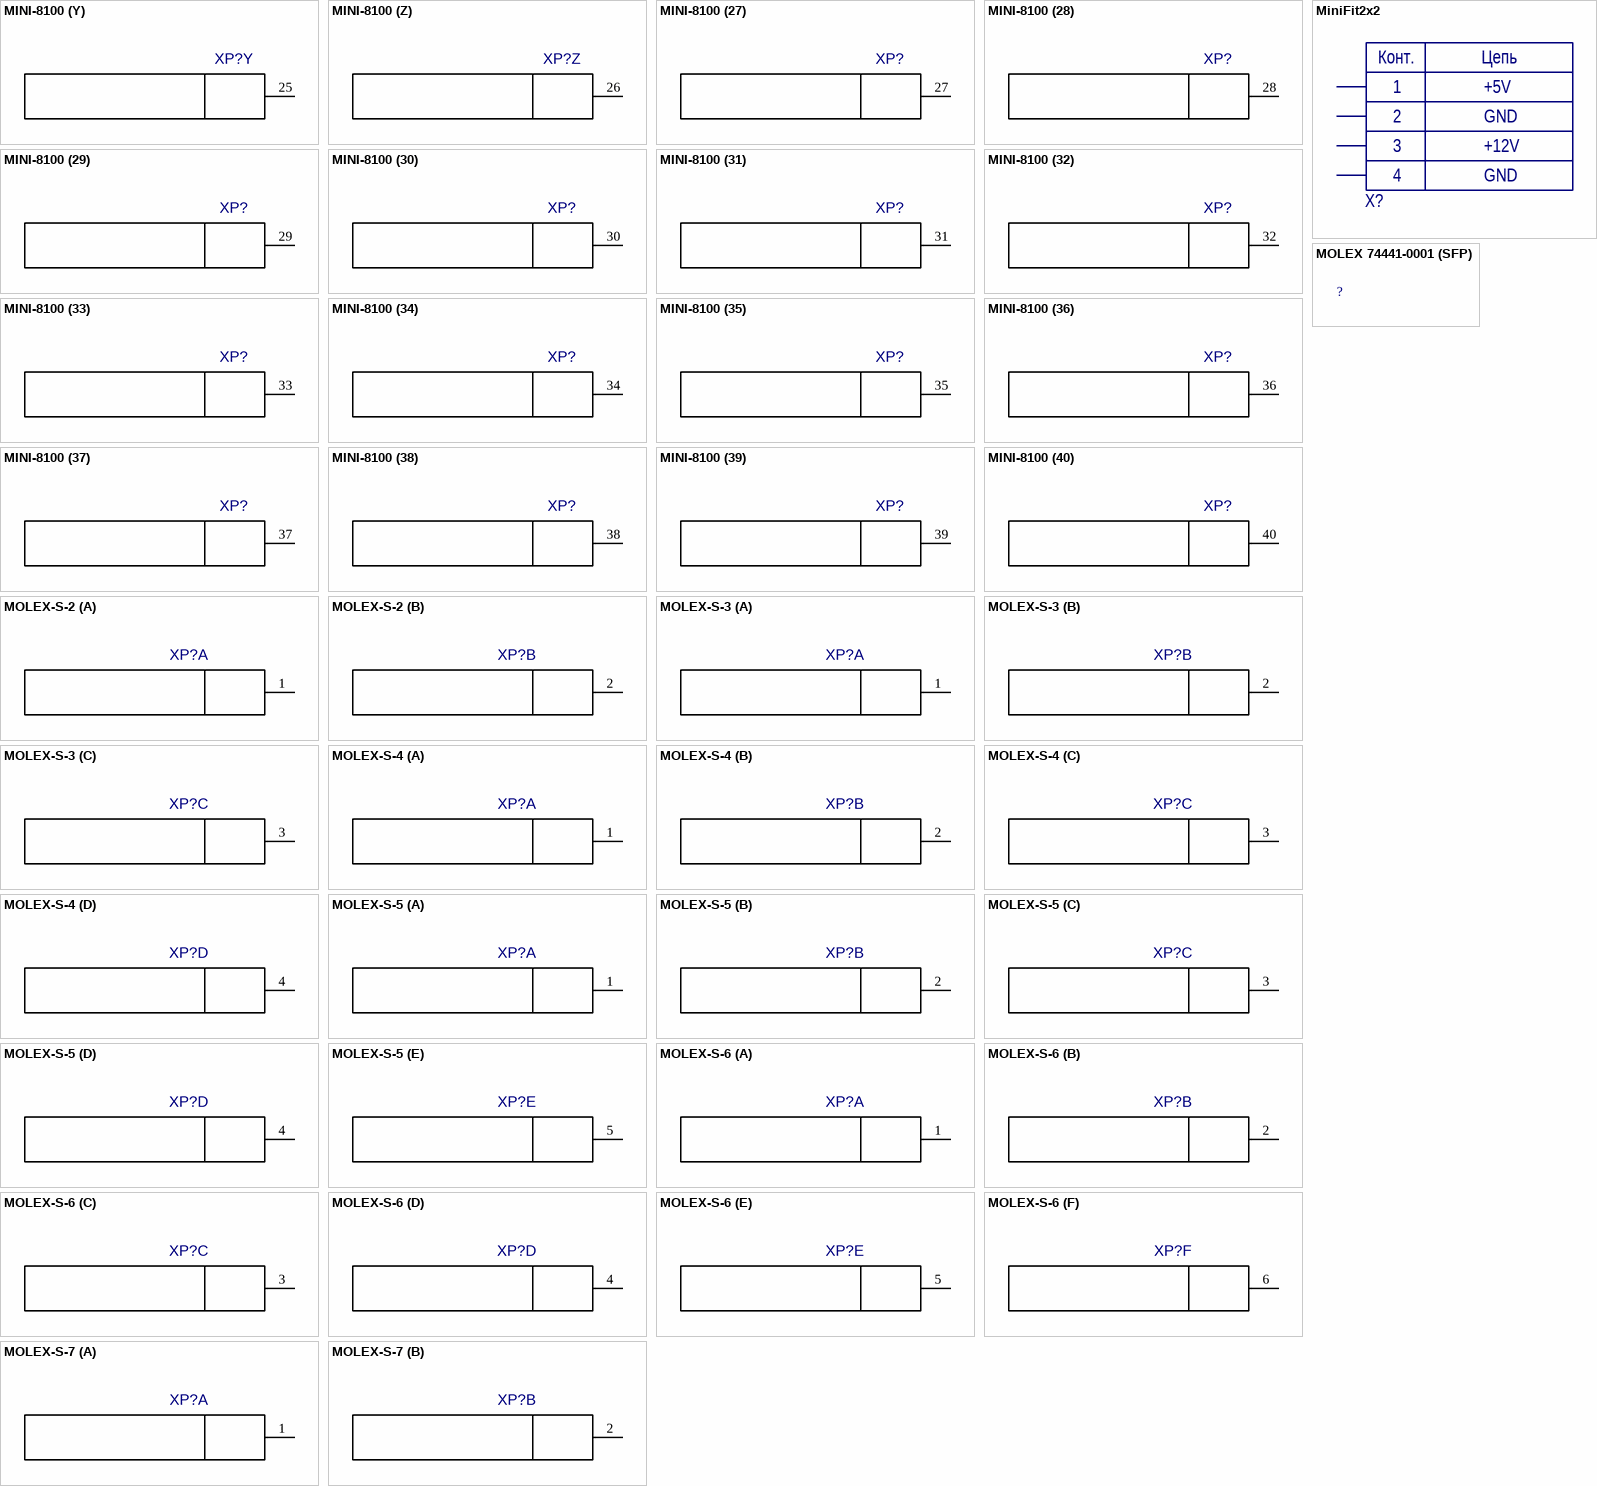
[diagram p10: symbols MINI-8100 to MOLEX-S-7]

## MINI-8100
designator XP?  (value not drawn)
Value: *
footprint MINI-8100
part A pins: 1
part B pins: 2
part C pins: 3
part D pins: 4
part E pins: 5
part F pins: 6
part G pins: 7
part H pins: 8
part I pins: 9
part J pins: 10
part K pins: 11
part L pins: 12
part M pins: 13
part N pins: 14
part O pins: 15
part P pins: 16
part Q pins: 17
part R pins: 18
part S pins: 19
part T pins: 20
part U pins: 21
part V pins: 22
part W pins: 23
part X pins: 24
part Y pins: 25
part Z pins: 26
part 27 pins: 27
part 28 pins: 28
part 29 pins: 29
part 30 pins: 30
part 31 pins: 31
part 32 pins: 32
part 33 pins: 33
part 34 pins: 34
part 35 pins: 35
part 36 pins: 36
part 37 pins: 37
part 38 pins: 38
part 39 pins: 39
part 40 pins: 40
part 41 pins: 41
part 42 pins: 42
part 43 pins: 43
part 44 pins: 44
part 45 pins: 45
part 46 pins: 46
part 47 pins: 47
part 48 pins: 48
part 49 pins: 49
part 50 pins: 50
part 51 pins: 51
part 52 pins: 52
part 53 pins: 53
part 54 pins: 54
part 55 pins: 55
part 56 pins: 56
part 57 pins: 57
part 58 pins: 58
part 59 pins: 59
part 60 pins: 60
part 61 pins: 61
part 62 pins: 62
part 63 pins: 63
part 64 pins: 64
part 65 pins: 65
part 66 pins: 66
part 67 pins: 67
part 68 pins: 68
part 69 pins: 69
part 70 pins: 70
part 71 pins: 71
part 72 pins: 72
part 73 pins: 73
part 74 pins: 74
part 75 pins: 75
part 76 pins: 76
part 77 pins: 77
part 78 pins: 78
part 79 pins: 79
part 80 pins: 80
part 81 pins: 81
part 82 pins: 82
part 83 pins: 83
part 84 pins: 84
part 85 pins: 85
part 86 pins: 86
part 87 pins: 87
part 88 pins: 88
part 89 pins: 89
part 90 pins: 90
part 91 pins: 91
part 92 pins: 92
part 93 pins: 93
part 94 pins: 94
part 95 pins: 95
part 96 pins: 96
part 97 pins: 97
part 98 pins: 98
part 99 pins: 99
part 100 pins: 100
part 101 pins: 101
part 102 pins: 102
part 103 pins: 103
part 104 pins: 104
part 105 pins: 105
part 106 pins: 106
part 107 pins: 107
part 108 pins: 108
part 109 pins: 109
part 110 pins: 110
part 111 pins: 111
part 112 pins: 112
part 113 pins: 113
part 114 pins: 114
part 115 pins: 115
part 116 pins: 116
part 117 pins: 117
part 118 pins: 118
part 119 pins: 119
part 120 pins: 120
part 121 pins: 121
part 122 pins: 122
part 123 pins: 123
part 124 pins: 124
part 125 pins: 125
part 126 pins: 126
part 127 pins: 127
part 128 pins: 128
part 129 pins: 129
part 130 pins: 130
part 131 pins: 131
part 132 pins: 132
part 133 pins: 133
part 134 pins: 134
part 135 pins: 135
part 136 pins: 136
part 137 pins: 137
part 138 pins: 138
part 139 pins: 139
part 140 pins: 140
part 141 pins: 141
part 142 pins: 142
part 143 pins: 143
part 144 pins: 144
part 145 pins: 145
part 146 pins: 146
part 147 pins: 147
part 148 pins: 148
part 149 pins: 149
part 150 pins: 150
part 151 pins: 151
part 152 pins: 152
part 153 pins: 153
part 154 pins: 154
part 155 pins: 155
part 156 pins: 156
part 157 pins: 157
part 158 pins: 158
part 159 pins: 159
part 160 pins: 160
part 161 pins: 161
part 162 pins: 162
part 163 pins: 163
part 164 pins: 164
part 165 pins: 165
part 166 pins: 166
part 167 pins: 167
part 168 pins: 168
part 169 pins: 169
part 170 pins: 170
part 171 pins: 171
part 172 pins: 172
part 173 pins: 173
part 174 pins: 174
part 175 pins: 175
part 176 pins: 176
part 177 pins: 177
part 178 pins: 178
part 179 pins: 179
part 180 pins: 180

## MiniFit2x2
designator X?  (value not drawn)
ManufacturerPartNmber: MiniFit2x2(MF-4MRA); Cell: *; Manufacturer: *; Value: *; Tolerance: *; Current: *; Voltage: *; Power: *
footprint MF2X2MRA_4.2
pins: 1, 2, 3, 4
text: Конт.; Цепь; +5V; GND; +12V

## MOLEX 74441-0001 (SFP)
designator ?  (value not drawn)
Value: *
footprint MOLEX 74441-0001 (SFP)
pins: 1 hidden, 2 hidden, 3 hidden, 4 hidden, 5 hidden, 6 hidden, 7 hidden, 8 hidden, 9 hidden, 10 hidden, 11 hidden, 12 hidden, 13 hidden, 14 hidden, 15 hidden, 16 hidden, 17 hidden, 18 hidden, 19 hidden, 20 hidden

## MOLEX-S-2
designator XP?  (value not drawn)
Value: *
footprint MOLEX-S-2
part A pins: 1
part B pins: 2

## MOLEX-S-3
designator XP?  (value not drawn)
Value: *
footprint MOLEX-S-3
part A pins: 1
part B pins: 2
part C pins: 3

## MOLEX-S-4
designator XP?  (value not drawn)
Value: *
footprint MOLEX-S-4
part A pins: 1
part B pins: 2
part C pins: 3
part D pins: 4

## MOLEX-S-5
designator XP?  (value not drawn)
Value: *
footprint MOLEX-S-5
part A pins: 1
part B pins: 2
part C pins: 3
part D pins: 4
part E pins: 5

## MOLEX-S-6
designator XP?  (value not drawn)
Value: *
footprint MOLEX-S-6
part A pins: 1
part B pins: 2
part C pins: 3
part D pins: 4
part E pins: 5
part F pins: 6

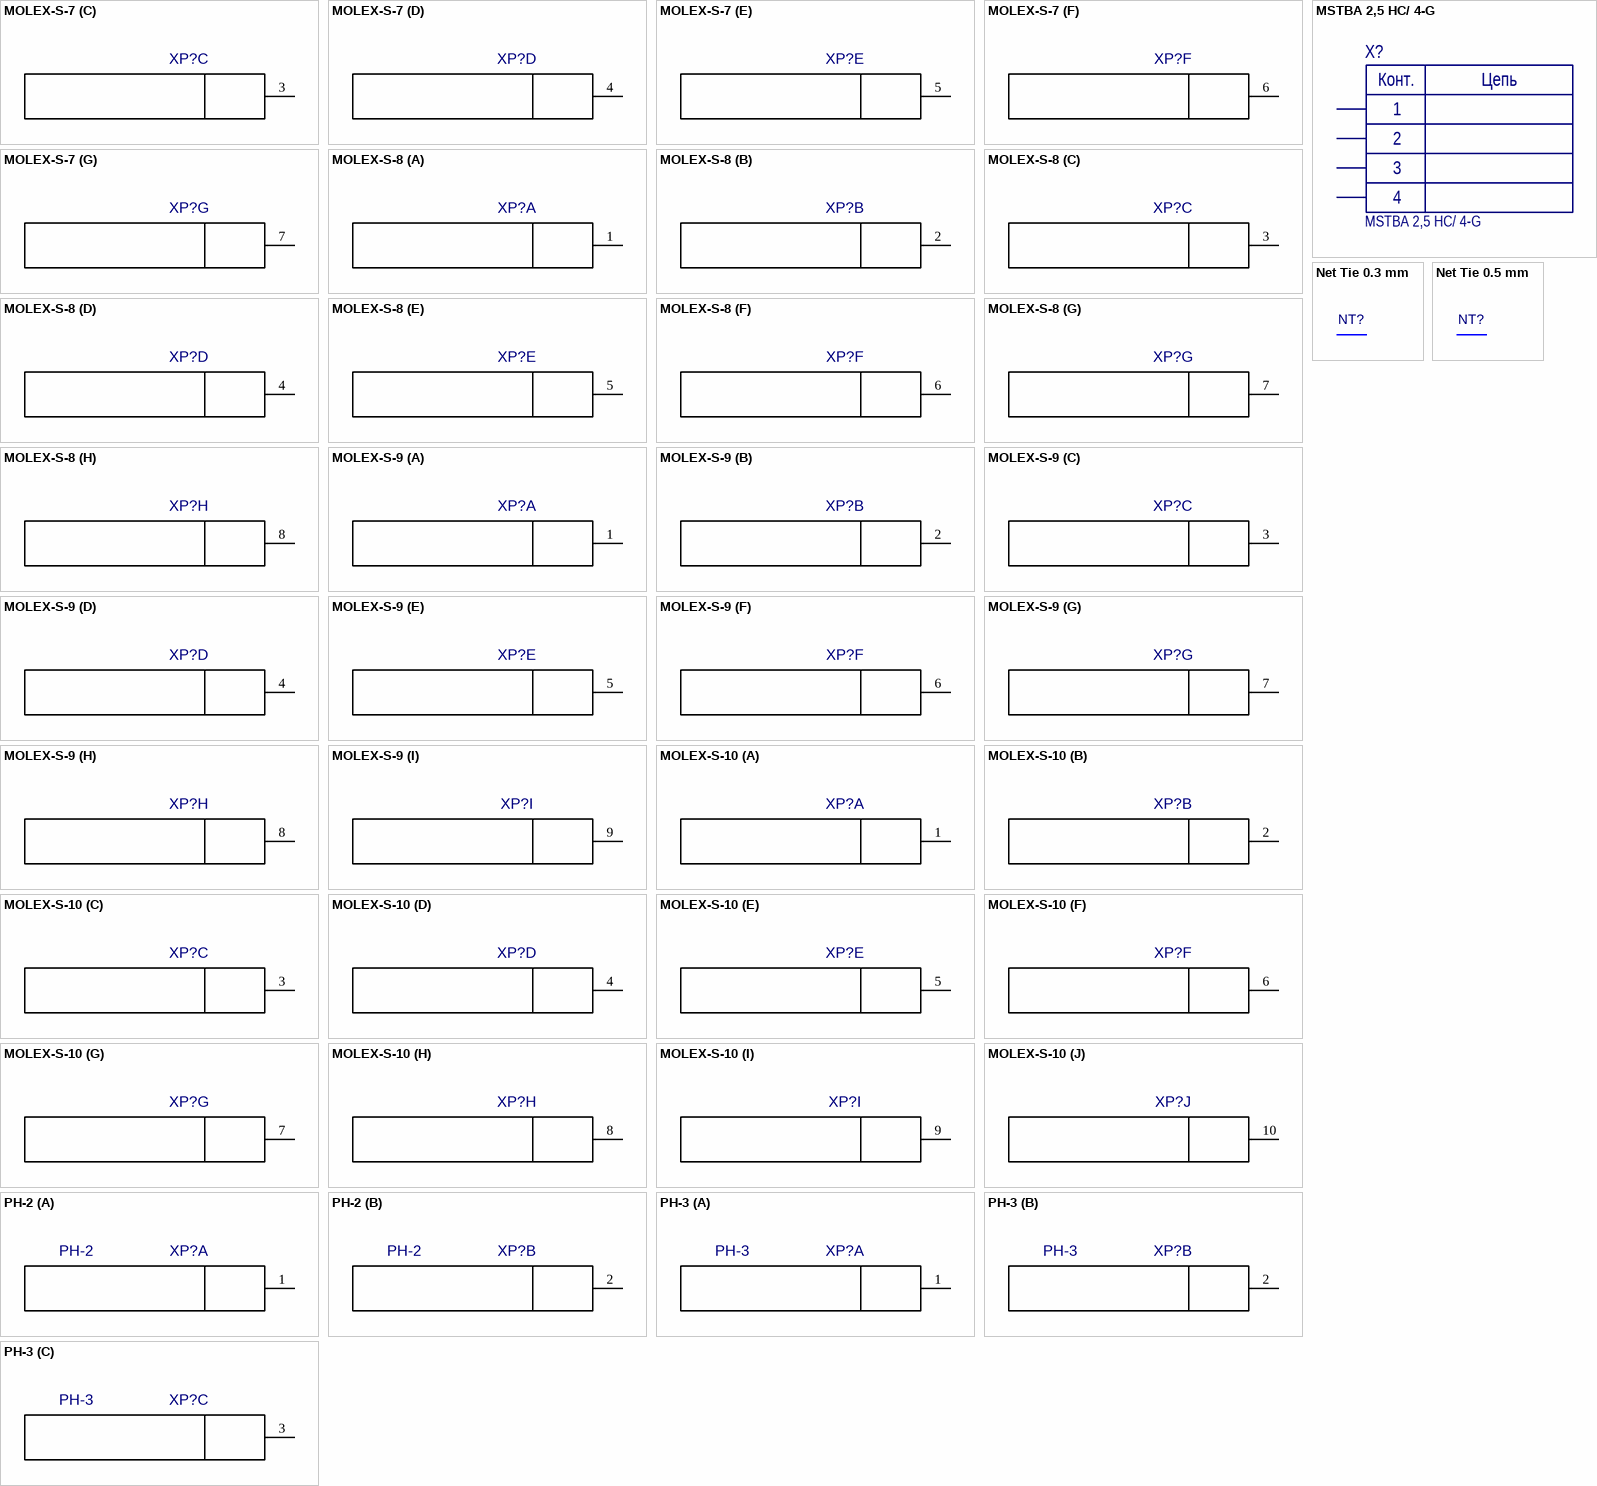
[diagram p11: symbols MOLEX-S-7 to PH-3]

## MOLEX-S-7
designator XP?  (value not drawn)
Value: *
footprint MOLEX-S-7
part A pins: 1
part B pins: 2
part C pins: 3
part D pins: 4
part E pins: 5
part F pins: 6
part G pins: 7

## MOLEX-S-8
designator XP?  (value not drawn)
Value: *
footprint MOLEX-S-8
part A pins: 1
part B pins: 2
part C pins: 3
part D pins: 4
part E pins: 5
part F pins: 6
part G pins: 7
part H pins: 8

## MOLEX-S-9
designator XP?  (value not drawn)
Value: *
footprint MOLEX-S-9
part A pins: 1
part B pins: 2
part C pins: 3
part D pins: 4
part E pins: 5
part F pins: 6
part G pins: 7
part H pins: 8
part I pins: 9

## MOLEX-S-10
designator XP?  (value not drawn)
Value: *
footprint MOLEX-S-10
part A pins: 1
part B pins: 2
part C pins: 3
part D pins: 4
part E pins: 5
part F pins: 6
part G pins: 7
part H pins: 8
part I pins: 9
part J pins: 10

## MSTBA 2,5 HC/ 4-G
designator X?
Manufacturer: PHOENIX CONTACT; ManufacturerPartNumber: 1923775; Cell: *; Value: *; Tolerance: *; Current: *; Voltage: *; Power: *
footprint MSTBA 2,5 HC/ 4-G-5 (Base strip, Pitch:5mm, PN:1923775)
pins: 1, 2, 3, 4
text: Конт.; Цепь

## Net Tie 0.3 mm
designator NT?  (value not drawn)  (net tie, no BOM)
Перемычка для 2 разных сигналов S=0.3 мм
footprint Net Tie 0.3mm (Перемычка для 2 разных сигналов S=0.3 мм)
pins: 1, 2

## Net Tie 0.5 mm
designator NT?  (value not drawn)  (net tie, no BOM)
Перемычка для 2 разных сигналов S=0.5 мм
footprint Net Tie 0.5 mm (Перемычка для 2 разных сигналов S=0.5 мм)
pins: 1, 2

## PH-2
designator XP?
Value: *
footprint PH-2
part A pins: 1
part B pins: 2

## PH-3
designator XP?
Value: *
footprint PH-3
part A pins: 1
part B pins: 2
part C pins: 3

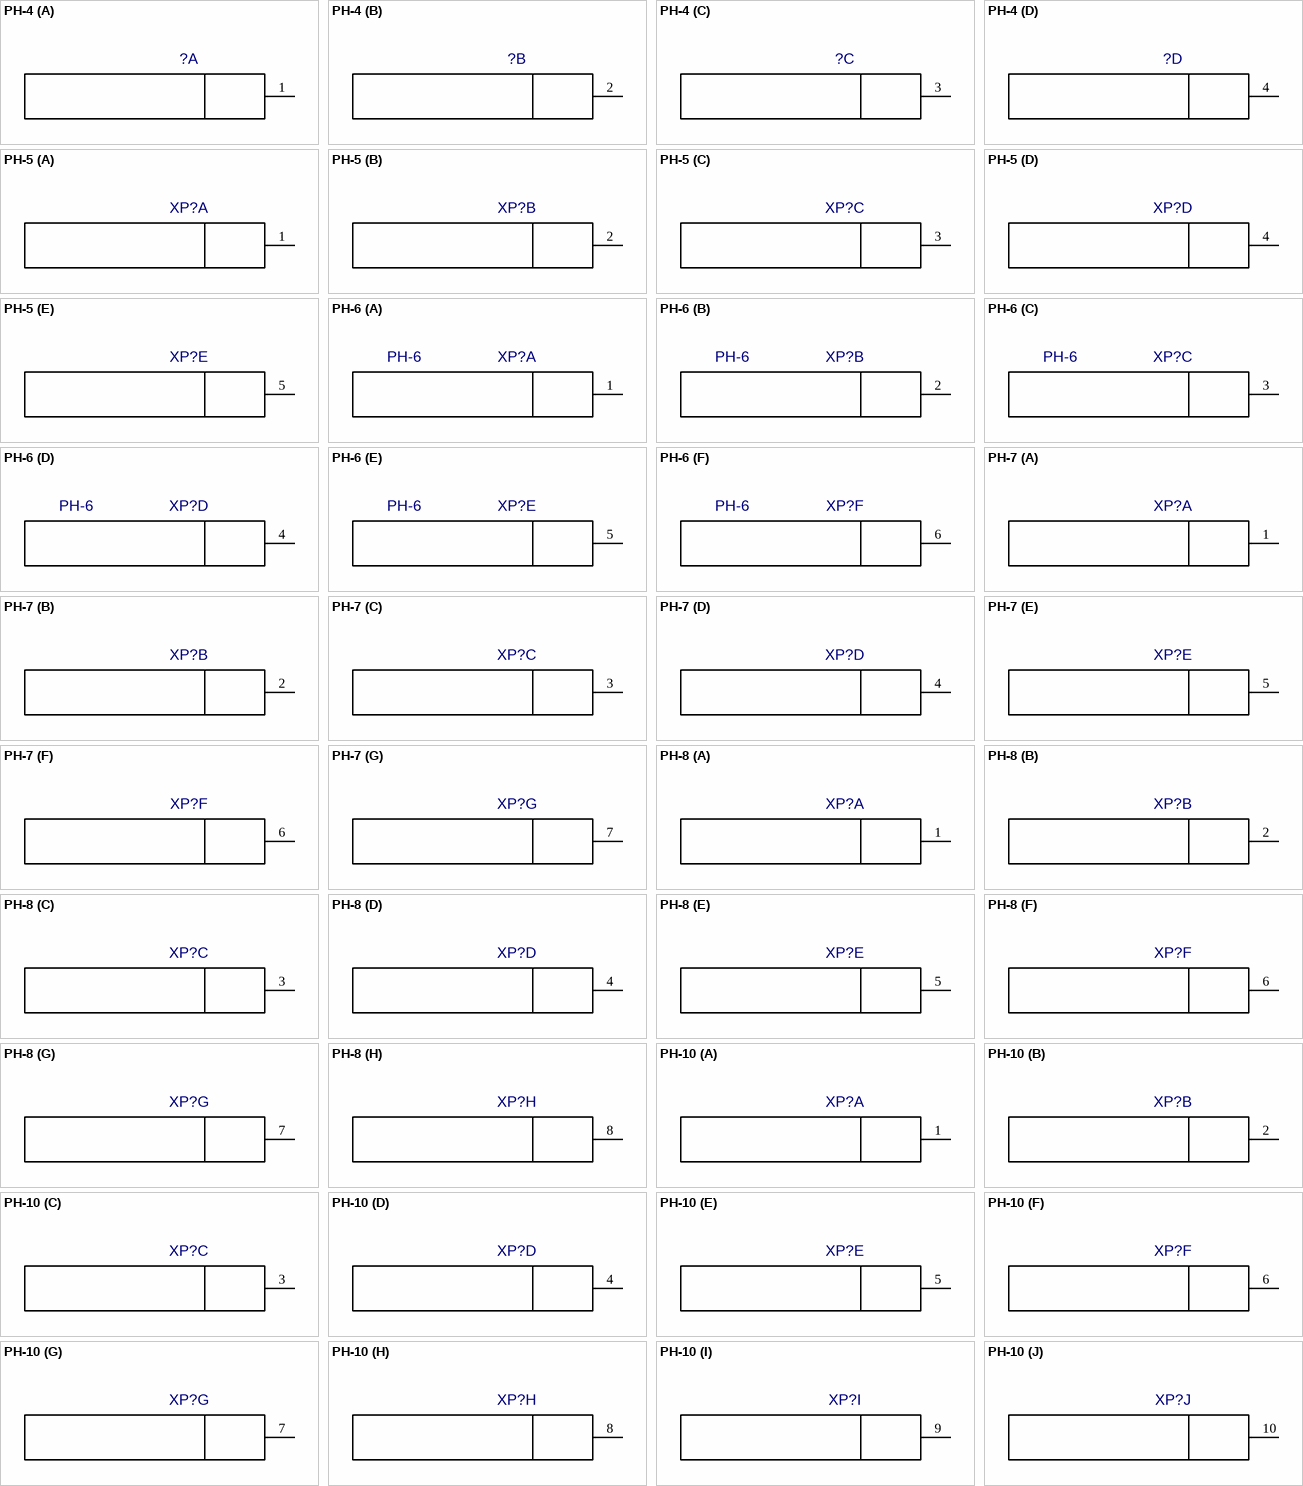
[diagram p12: symbols PH-4 to PH-10]

## PH-4
designator ?  (value not drawn)
Value: *
footprint PH-4
part A pins: 1
part B pins: 2
part C pins: 3
part D pins: 4

## PH-5
designator XP?  (value not drawn)
Value: *
footprint PH-5
part A pins: 1
part B pins: 2
part C pins: 3
part D pins: 4
part E pins: 5

## PH-6
designator XP?
Value: *
footprint PH-6
part A pins: 1
part B pins: 2
part C pins: 3
part D pins: 4
part E pins: 5
part F pins: 6

## PH-7
designator XP?  (value not drawn)
Value: *
footprint PH-7
part A pins: 1
part B pins: 2
part C pins: 3
part D pins: 4
part E pins: 5
part F pins: 6
part G pins: 7

## PH-8
designator XP?  (value not drawn)
Value: *
footprint PH-8
part A pins: 1
part B pins: 2
part C pins: 3
part D pins: 4
part E pins: 5
part F pins: 6
part G pins: 7
part H pins: 8

## PH-10
designator XP?  (value not drawn)
Value: *
footprint PH-10
part A pins: 1
part B pins: 2
part C pins: 3
part D pins: 4
part E pins: 5
part F pins: 6
part G pins: 7
part H pins: 8
part I pins: 9
part J pins: 10

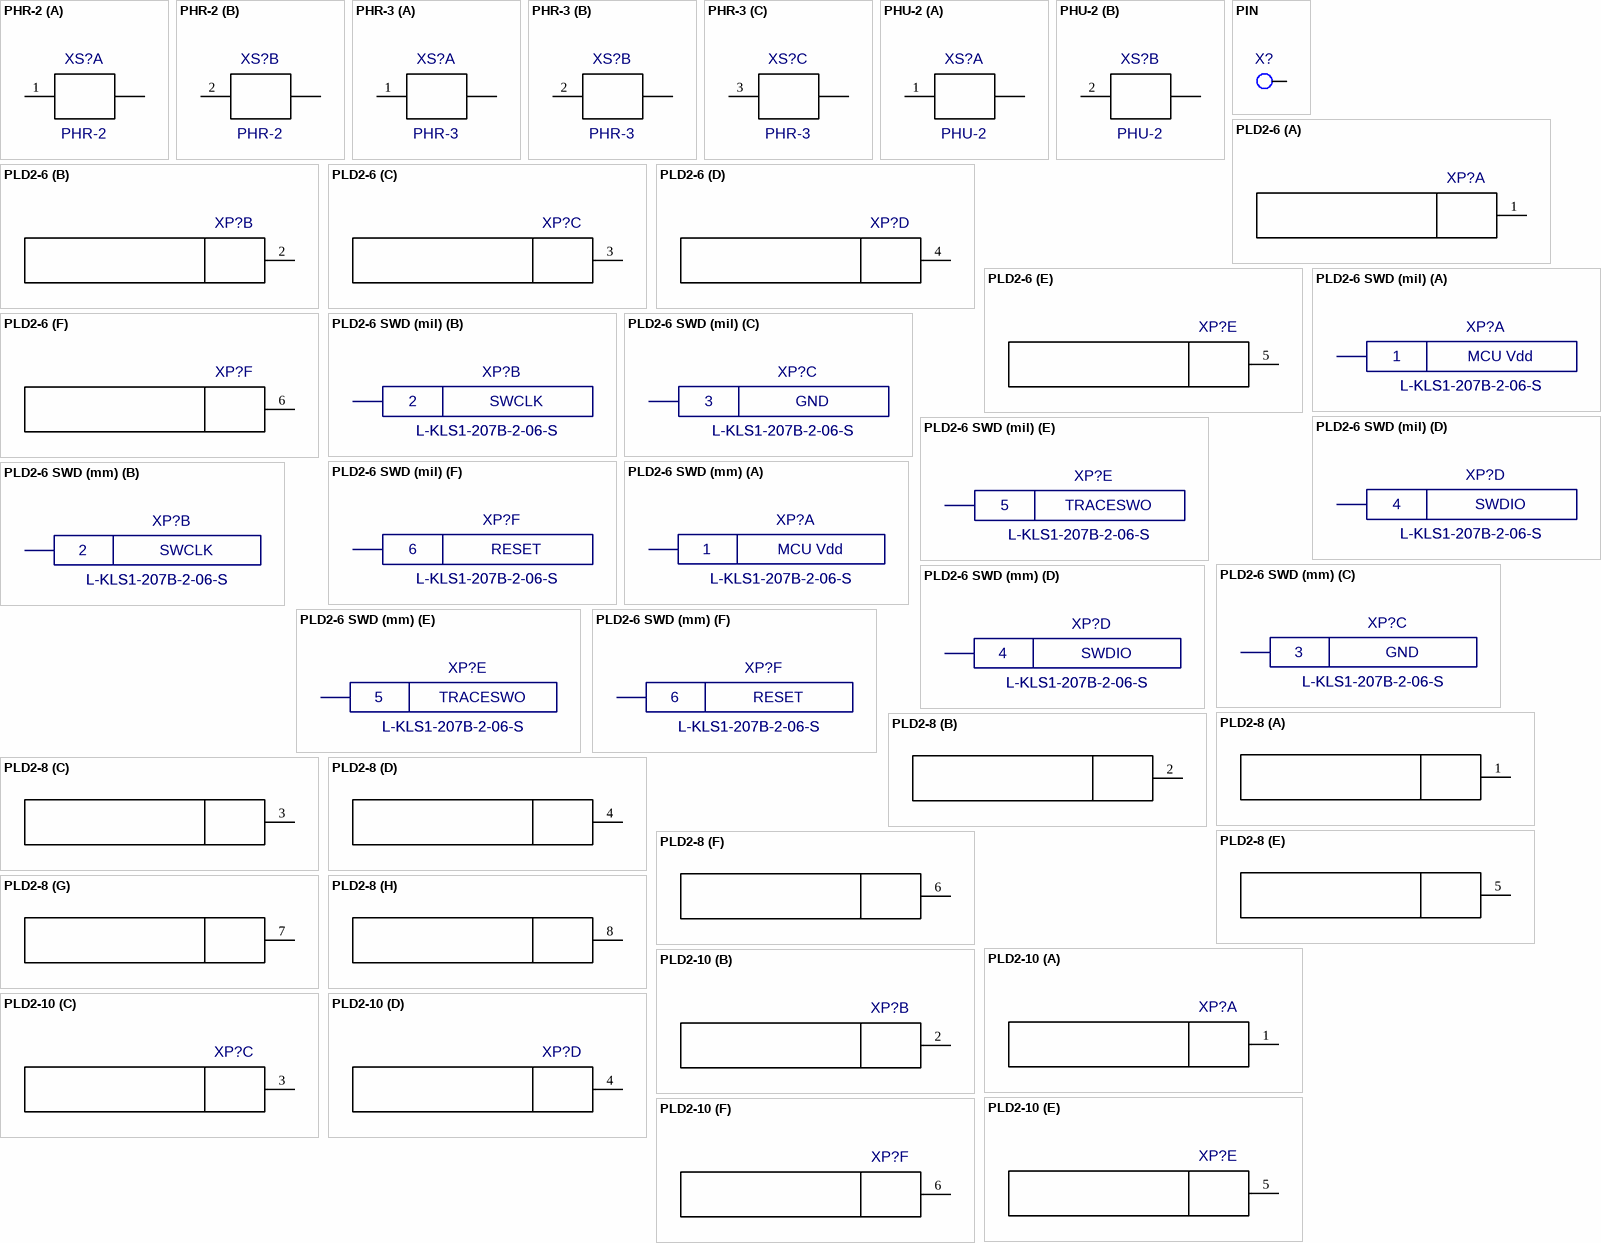
[diagram p13: symbols PHR-2 to PLD2-10]

## PHR-2
designator XS?
Value: *
part A pins: 1
part B pins: 2

## PHR-3
designator XS?
Value: *
part A pins: 1
part B pins: 2
part C pins: 3

## PHU-2
designator XS?
Value: *
part A pins: 1
part B pins: 2

## PIN
designator X?  (value not drawn)
Value: *
footprint PIN
pins: 1

## PLD2-6
designator XP?  (value not drawn)
Value: *
footprint PLD2-6
part A pins: 1
part B pins: 2
part C pins: 3
part D pins: 4
part E pins: 5
part F pins: 6

## PLD2-6 SWD (mil)
designator XP?, comment L-KLS1-207B-2-06-S
PLD2-6, 2 ряда по 3 конт., шаг 2 мм; Value: L-KLS1-207B-2-06-S
footprint PLD2-6
part A pins: 1 MCU Vdd
part B pins: 2 SWCLK
part C pins: 3 GND
part D pins: 4 SWDIO
part E pins: 5 RESET
part F pins: 6 TRACESWO

## PLD2-6 SWD (mm)
designator XP?, comment L-KLS1-207B-2-06-S
PLD2-6, 2 ряда по 3 конт., шаг 2 мм; Value: L-KLS1-207B-2-06-S
footprint PLD2-6
part A pins: 1 MCU Vdd
part B pins: 2 SWCLK
part C pins: 3 GND
part D pins: 4 SWDIO
part E pins: 5 RESET
part F pins: 6 TRACESWO

## PLD2-8
designator XP?  (value not drawn)
Value: *
footprint PLD2-10
footprint PLD2-8
part A pins: 1
part B pins: 2
part C pins: 3
part D pins: 4
part E pins: 5
part F pins: 6
part G pins: 7
part H pins: 8

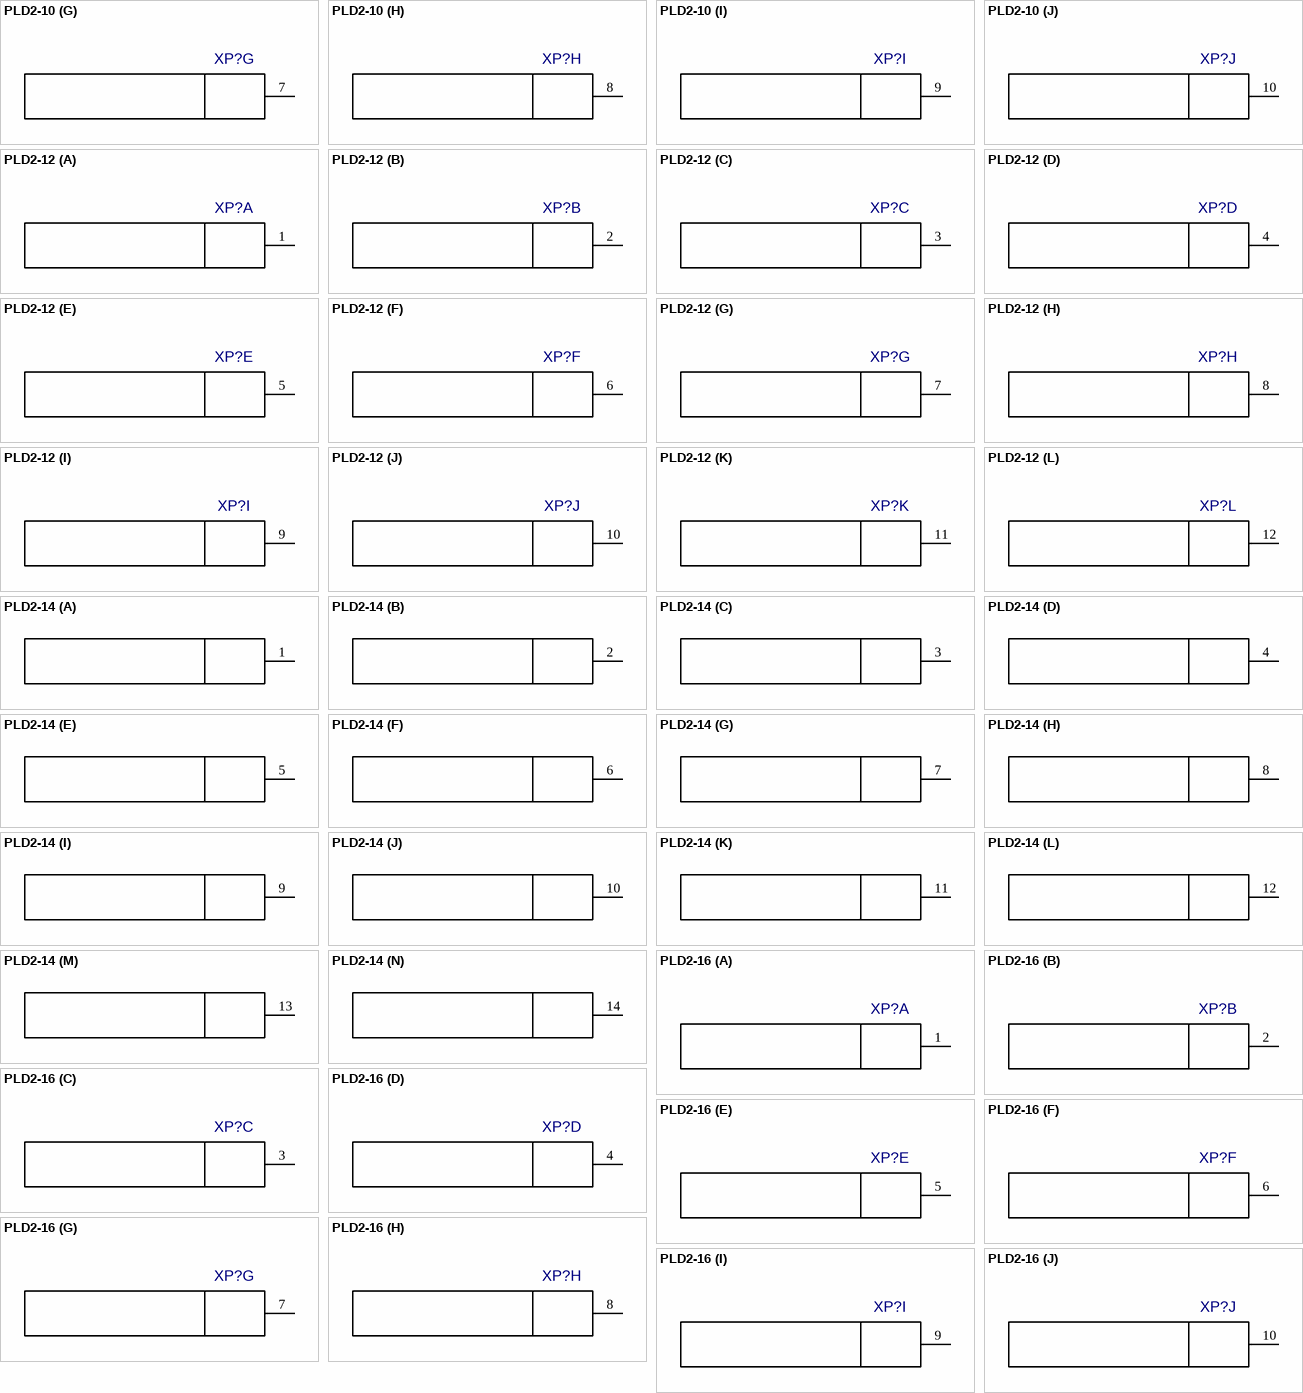
[diagram p14: symbols PLD2-10 to PLD2-16]

## PLD2-10
designator XP?  (value not drawn)
Value: *
footprint PLD2-10
part A pins: 1
part B pins: 2
part C pins: 3
part D pins: 4
part E pins: 5
part F pins: 6
part G pins: 7
part H pins: 8
part I pins: 9
part J pins: 10

## PLD2-12
designator XP?  (value not drawn)
Value: *
footprint PLD2-12
part A pins: 1
part B pins: 2
part C pins: 3
part D pins: 4
part E pins: 5
part F pins: 6
part G pins: 7
part H pins: 8
part I pins: 9
part J pins: 10
part K pins: 11
part L pins: 12

## PLD2-14
designator XP?  (value not drawn)
Value: *
footprint PLD2-14
part A pins: 1
part B pins: 2
part C pins: 3
part D pins: 4
part E pins: 5
part F pins: 6
part G pins: 7
part H pins: 8
part I pins: 9
part J pins: 10
part K pins: 11
part L pins: 12
part M pins: 13
part N pins: 14

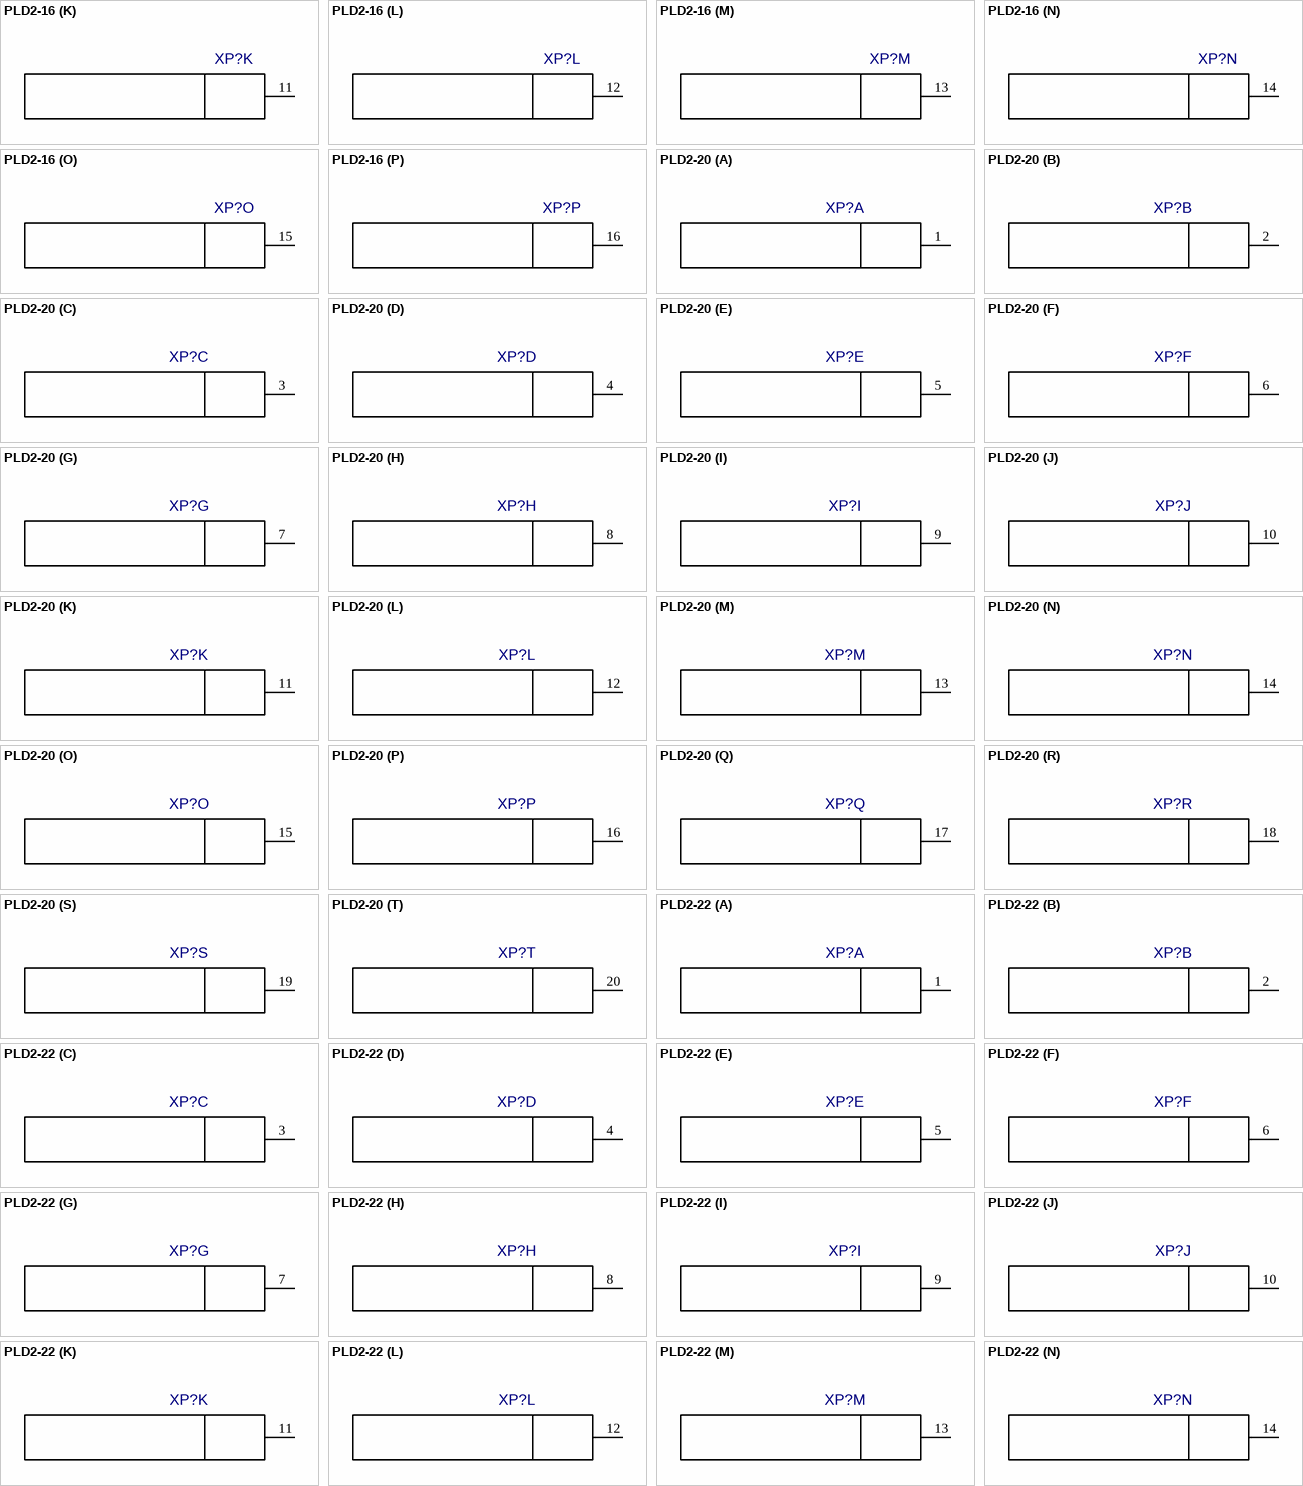
[diagram p15: symbols PLD2-16 to PLD2-22]

## PLD2-16
designator XP?  (value not drawn)
Value: *
footprint PLD2-16
part A pins: 1
part B pins: 2
part C pins: 3
part D pins: 4
part E pins: 5
part F pins: 6
part G pins: 7
part H pins: 8
part I pins: 9
part J pins: 10
part K pins: 11
part L pins: 12
part M pins: 13
part N pins: 14
part O pins: 15
part P pins: 16

## PLD2-20
designator XP?  (value not drawn)
Value: *
footprint PLD2-20
part A pins: 1
part B pins: 2
part C pins: 3
part D pins: 4
part E pins: 5
part F pins: 6
part G pins: 7
part H pins: 8
part I pins: 9
part J pins: 10
part K pins: 11
part L pins: 12
part M pins: 13
part N pins: 14
part O pins: 15
part P pins: 16
part Q pins: 17
part R pins: 18
part S pins: 19
part T pins: 20

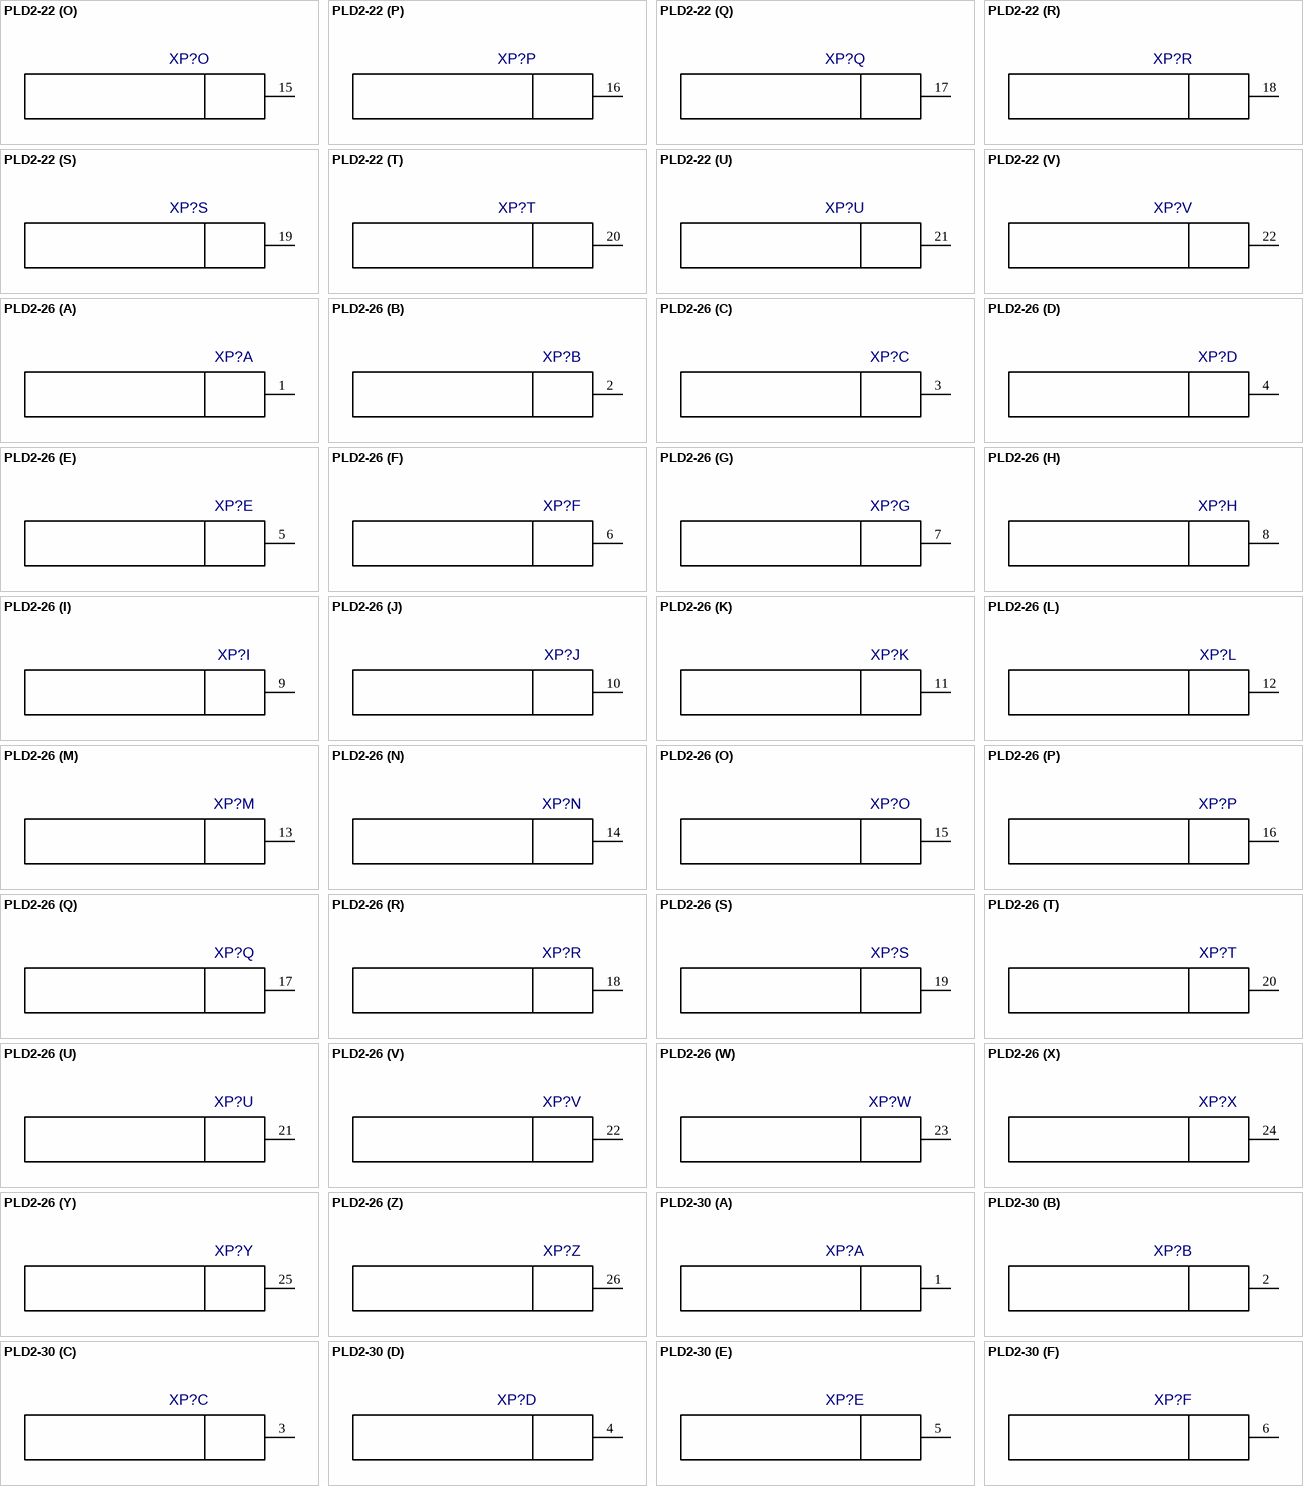
[diagram p16: symbols PLD2-22 to PLD2-30]

## PLD2-22
designator XP?  (value not drawn)
Value: *
footprint PLD2-22
part A pins: 1
part B pins: 2
part C pins: 3
part D pins: 4
part E pins: 5
part F pins: 6
part G pins: 7
part H pins: 8
part I pins: 9
part J pins: 10
part K pins: 11
part L pins: 12
part M pins: 13
part N pins: 14
part O pins: 15
part P pins: 16
part Q pins: 17
part R pins: 18
part S pins: 19
part T pins: 20
part U pins: 21
part V pins: 22

## PLD2-26
designator XP?  (value not drawn)
Value: *
footprint PLD2-26
part A pins: 1
part B pins: 2
part C pins: 3
part D pins: 4
part E pins: 5
part F pins: 6
part G pins: 7
part H pins: 8
part I pins: 9
part J pins: 10
part K pins: 11
part L pins: 12
part M pins: 13
part N pins: 14
part O pins: 15
part P pins: 16
part Q pins: 17
part R pins: 18
part S pins: 19
part T pins: 20
part U pins: 21
part V pins: 22
part W pins: 23
part X pins: 24
part Y pins: 25
part Z pins: 26

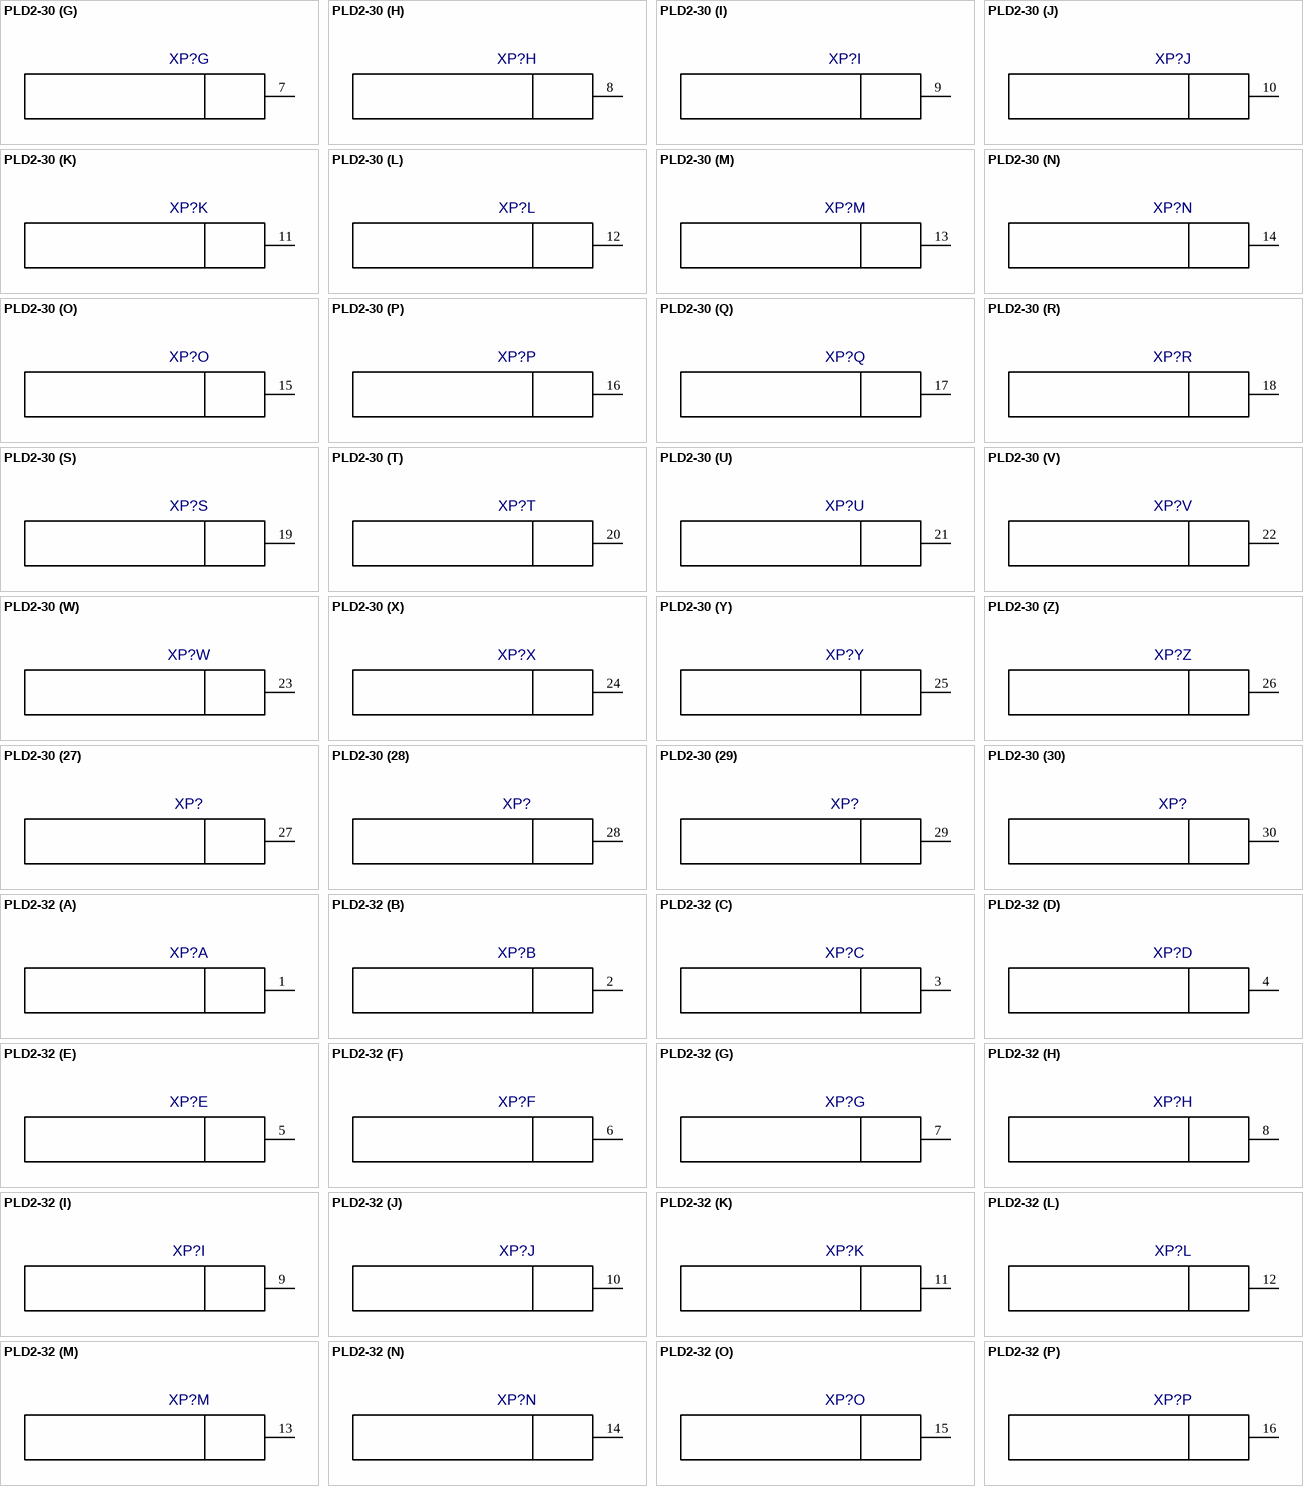
[diagram p17: symbols PLD2-30 to PLD2-32]

## PLD2-30
designator XP?  (value not drawn)
Value: *
footprint PLD2-30
part A pins: 1
part B pins: 2
part C pins: 3
part D pins: 4
part E pins: 5
part F pins: 6
part G pins: 7
part H pins: 8
part I pins: 9
part J pins: 10
part K pins: 11
part L pins: 12
part M pins: 13
part N pins: 14
part O pins: 15
part P pins: 16
part Q pins: 17
part R pins: 18
part S pins: 19
part T pins: 20
part U pins: 21
part V pins: 22
part W pins: 23
part X pins: 24
part Y pins: 25
part Z pins: 26
part 27 pins: 27
part 28 pins: 28
part 29 pins: 29
part 30 pins: 30

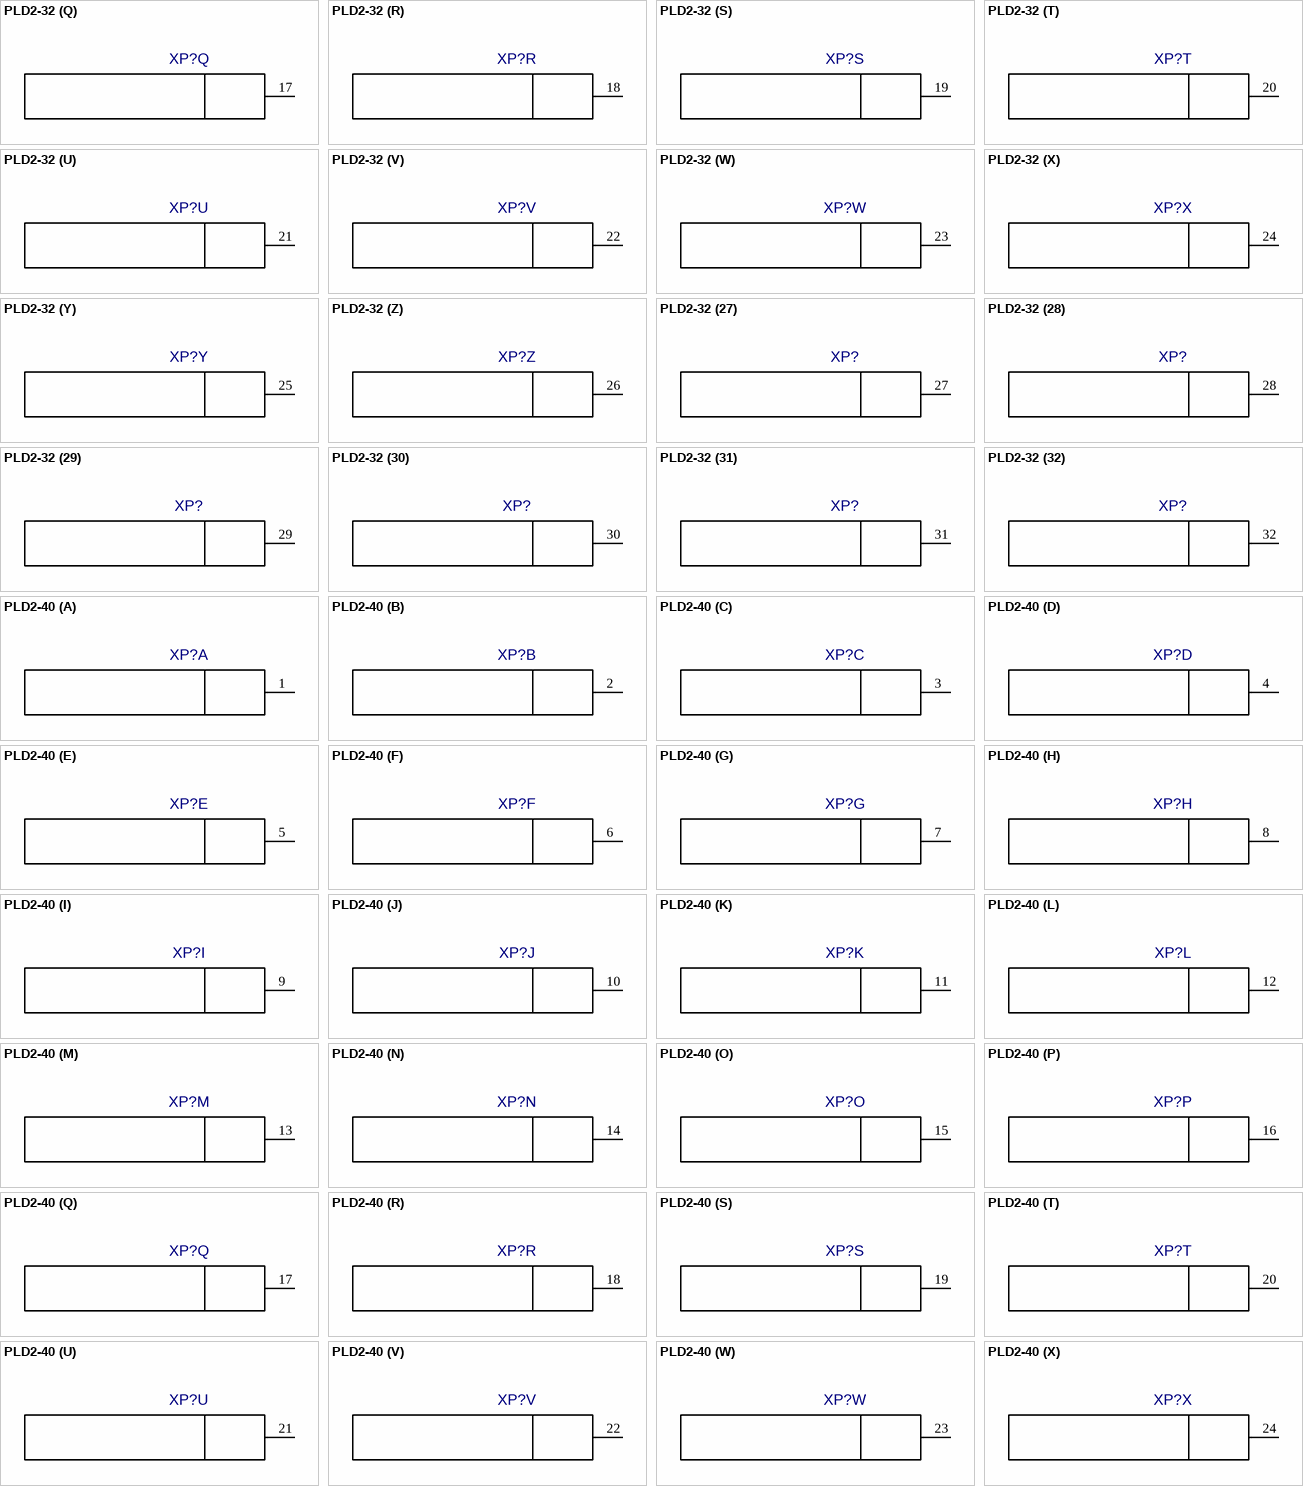
[diagram p18: symbols PLD2-32 to PLD2-40]

## PLD2-32
designator XP?  (value not drawn)
Value: *
footprint PLD2-32
part A pins: 1
part B pins: 2
part C pins: 3
part D pins: 4
part E pins: 5
part F pins: 6
part G pins: 7
part H pins: 8
part I pins: 9
part J pins: 10
part K pins: 11
part L pins: 12
part M pins: 13
part N pins: 14
part O pins: 15
part P pins: 16
part Q pins: 17
part R pins: 18
part S pins: 19
part T pins: 20
part U pins: 21
part V pins: 22
part W pins: 23
part X pins: 24
part Y pins: 25
part Z pins: 26
part 27 pins: 27
part 28 pins: 28
part 29 pins: 29
part 30 pins: 30
part 31 pins: 31
part 32 pins: 32

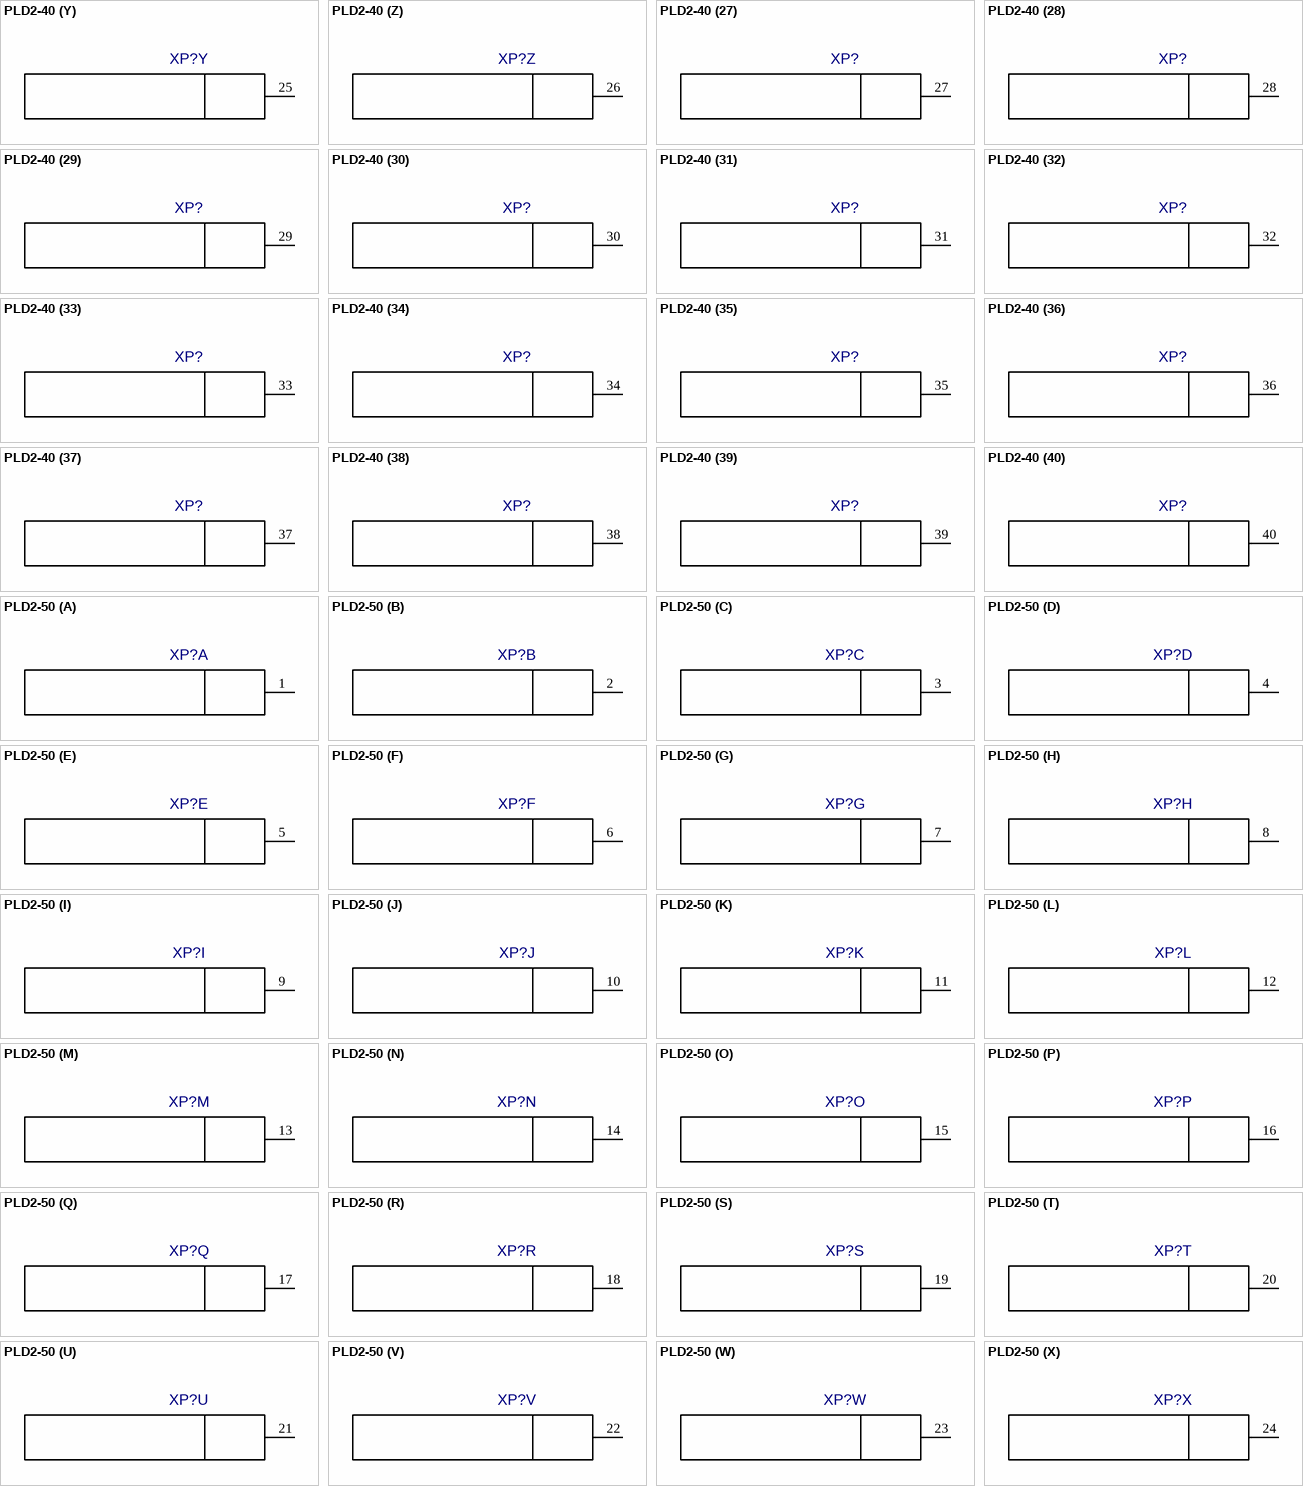
[diagram p19: symbols PLD2-40 to PLD2-50]

## PLD2-40
designator XP?  (value not drawn)
Value: *
footprint PLD2-40
part A pins: 1
part B pins: 2
part C pins: 3
part D pins: 4
part E pins: 5
part F pins: 6
part G pins: 7
part H pins: 8
part I pins: 9
part J pins: 10
part K pins: 11
part L pins: 12
part M pins: 13
part N pins: 14
part O pins: 15
part P pins: 16
part Q pins: 17
part R pins: 18
part S pins: 19
part T pins: 20
part U pins: 21
part V pins: 22
part W pins: 23
part X pins: 24
part Y pins: 25
part Z pins: 26
part 27 pins: 27
part 28 pins: 28
part 29 pins: 29
part 30 pins: 30
part 31 pins: 31
part 32 pins: 32
part 33 pins: 33
part 34 pins: 34
part 35 pins: 35
part 36 pins: 36
part 37 pins: 37
part 38 pins: 38
part 39 pins: 39
part 40 pins: 40

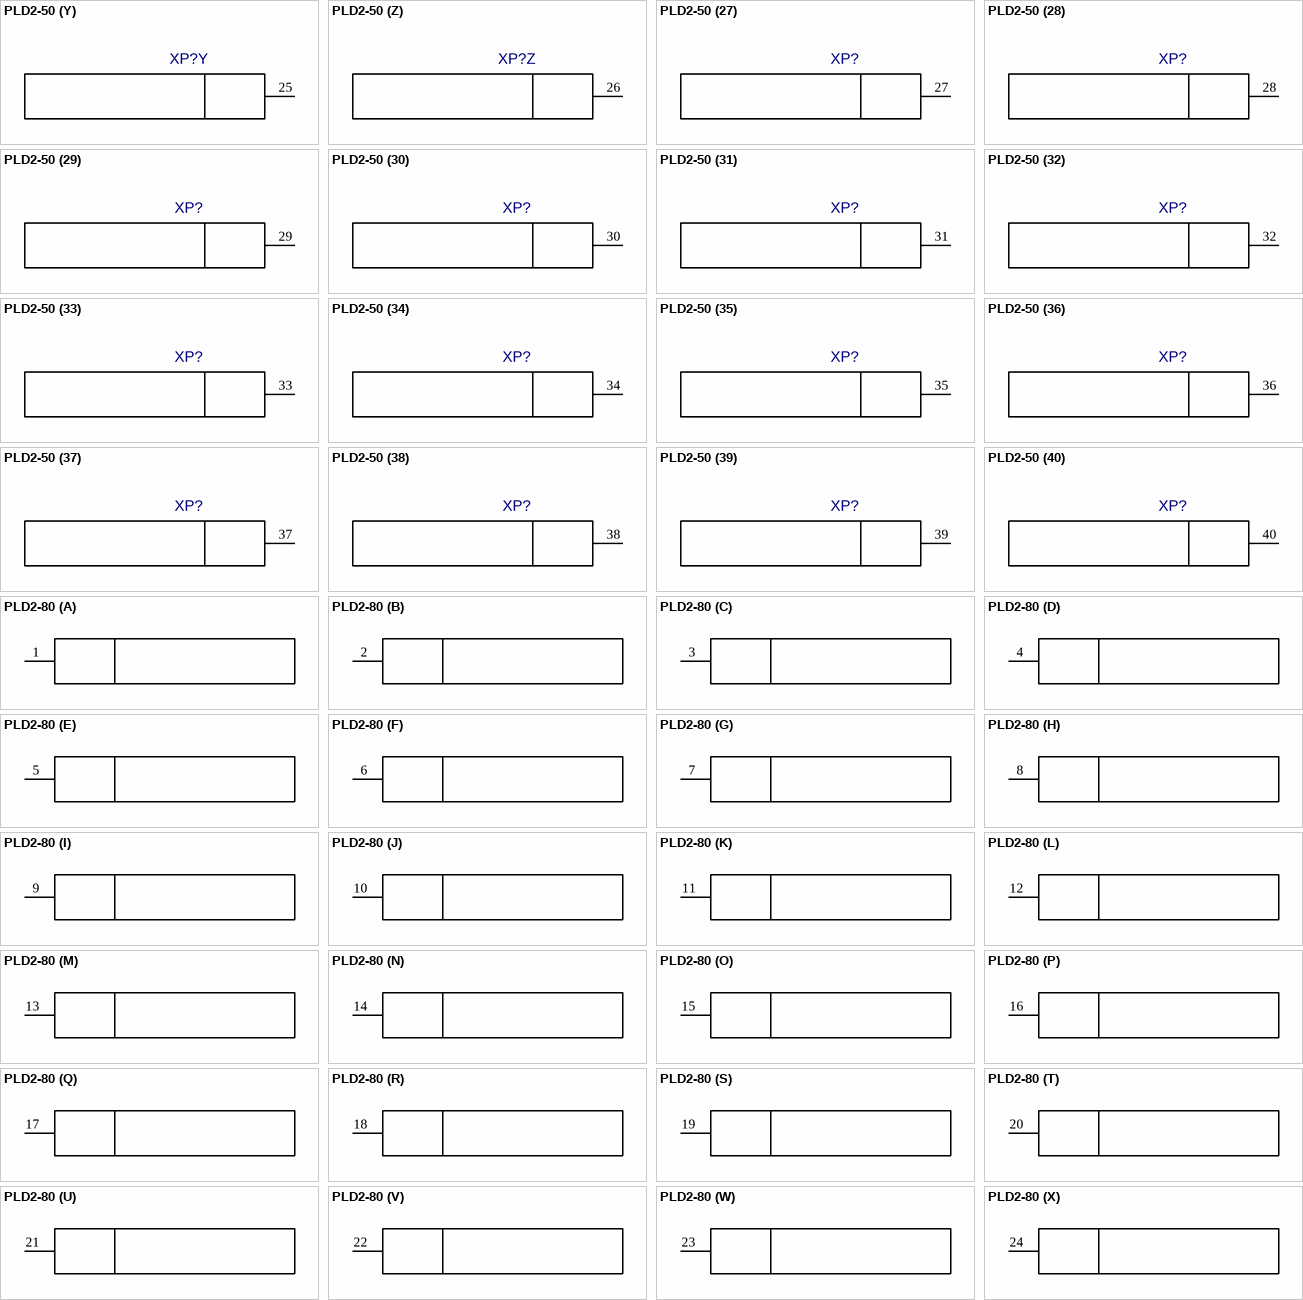
[diagram p20: symbols PLD2-50 to PLD2-80]

## PLD2-50
designator XP?  (value not drawn)
Value: *
footprint PLD2-50
part A pins: 1
part B pins: 2
part C pins: 3
part D pins: 4
part E pins: 5
part F pins: 6
part G pins: 7
part H pins: 8
part I pins: 9
part J pins: 10
part K pins: 11
part L pins: 12
part M pins: 13
part N pins: 14
part O pins: 15
part P pins: 16
part Q pins: 17
part R pins: 18
part S pins: 19
part T pins: 20
part U pins: 21
part V pins: 22
part W pins: 23
part X pins: 24
part Y pins: 25
part Z pins: 26
part 27 pins: 27
part 28 pins: 28
part 29 pins: 29
part 30 pins: 30
part 31 pins: 31
part 32 pins: 32
part 33 pins: 33
part 34 pins: 34
part 35 pins: 35
part 36 pins: 36
part 37 pins: 37
part 38 pins: 38
part 39 pins: 39
part 40 pins: 40
part 41 pins: 41
part 42 pins: 42
part 43 pins: 43
part 44 pins: 44
part 45 pins: 45
part 46 pins: 46
part 47 pins: 47
part 48 pins: 48
part 49 pins: 49
part 50 pins: 50

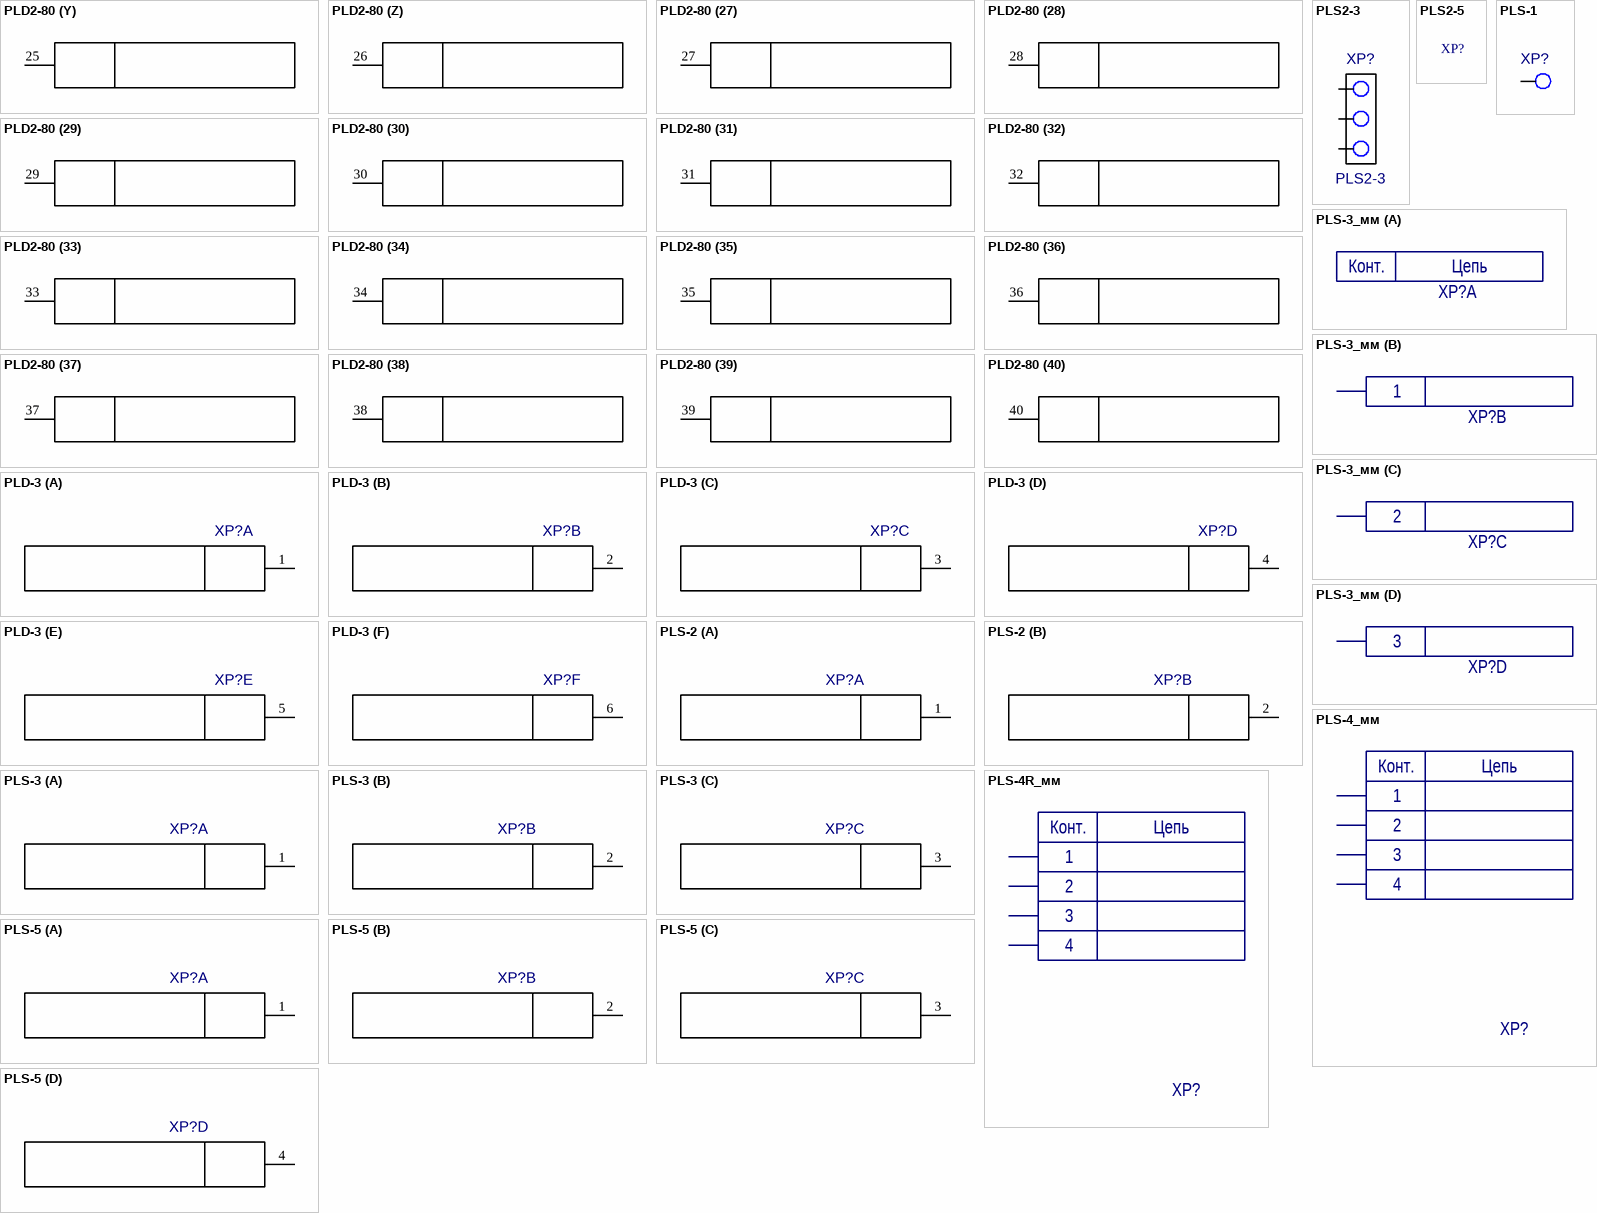
[diagram p21: symbols PLD2-80 to PLS-5]

## PLD2-80
designator XP?  (value not drawn)
Value: *
part A pins: 1
part B pins: 2
part C pins: 3
part D pins: 4
part E pins: 5
part F pins: 6
part G pins: 7
part H pins: 8
part I pins: 9
part J pins: 10
part K pins: 11
part L pins: 12
part M pins: 13
part N pins: 14
part O pins: 15
part P pins: 16
part Q pins: 17
part R pins: 18
part S pins: 19
part T pins: 20
part U pins: 21
part V pins: 22
part W pins: 23
part X pins: 24
part Y pins: 25
part Z pins: 26
part 27 pins: 27
part 28 pins: 28
part 29 pins: 29
part 30 pins: 30
part 31 pins: 31
part 32 pins: 32
part 33 pins: 33
part 34 pins: 34
part 35 pins: 35
part 36 pins: 36
part 37 pins: 37
part 38 pins: 38
part 39 pins: 39
part 40 pins: 40
part 41 pins: 41
part 42 pins: 42
part 43 pins: 43
part 44 pins: 44
part 45 pins: 45
part 46 pins: 46
part 47 pins: 47
part 48 pins: 48
part 49 pins: 49
part 50 pins: 50
part 51 pins: 51
part 52 pins: 52
part 53 pins: 53
part 54 pins: 54
part 55 pins: 55
part 56 pins: 56
part 57 pins: 57
part 58 pins: 58
part 59 pins: 59
part 60 pins: 60
part 61 pins: 61
part 62 pins: 62
part 63 pins: 63
part 64 pins: 64
part 65 pins: 65
part 66 pins: 66
part 67 pins: 67
part 68 pins: 68
part 69 pins: 69
part 70 pins: 70
part 71 pins: 71
part 72 pins: 72
part 73 pins: 73
part 74 pins: 74
part 75 pins: 75
part 76 pins: 76
part 77 pins: 77
part 78 pins: 78
part 79 pins: 79
part 80 pins: 80

## PLD-3
designator XP?  (value not drawn)
Value: *
footprint PLD-3
part A pins: 1
part B pins: 2
part C pins: 3
part D pins: 4
part E pins: 5
part F pins: 6

## PLS2-3
designator XP?
Value: *
footprint PLS2-3
pins: 1, 2, 3

## PLS2-5
designator XP?  (value not drawn)
Value: *
footprint PLS2-5
pins: 1 hidden, 2 hidden, 3 hidden, 4 hidden, 5 hidden

## PLS-1
designator XP?  (value not drawn)
Value: *
footprint PLS-1
pins: 1

## PLS-2
designator XP?  (value not drawn)
Value: *
footprint PLS-2
part A pins: 1
part B pins: 2

## PLS-3
designator XP?  (value not drawn)
Value: DS1021-1*3SF11-B
footprint PLS-3
part A pins: 1
part B pins: 2
part C pins: 3

## PLS-3_мм
designator XP?, comment PLS-3  (value not drawn)
PLS3; Value: DS1021-1*3SF11-B; Cell: *; Manufacturer: *; Current: *; Power: *; Tolerance: *; Voltage: *; ManufacturerPartNmber: PLS-3
footprint 3pin254
part B pins: 1
part C pins: 2
part D pins: 3
part A text: Конт.; Цепь

## PLS-4_мм
designator XP?, comment PLS-4  (value not drawn)
Value: DS-1021-1x4; Cell: *; ManufacturerPartNmber: PLS-4; Tolerance: *; Current: *; Voltage: *; Power: *
footprint PLS-4
pins: 1, 2, 3, 4
text: Конт.; Цепь

## PLS-4R_мм
designator XP?, comment PLS-4R  (value not drawn)
Value: DS1022-1x4R; Cell: *; ManufacturerPartNmber: PLS-4R; Tolerance: *; Current: *; Voltage: *; Power: *
footprint PLS-4RR
pins: 1, 2, 3, 4
text: Конт.; Цепь

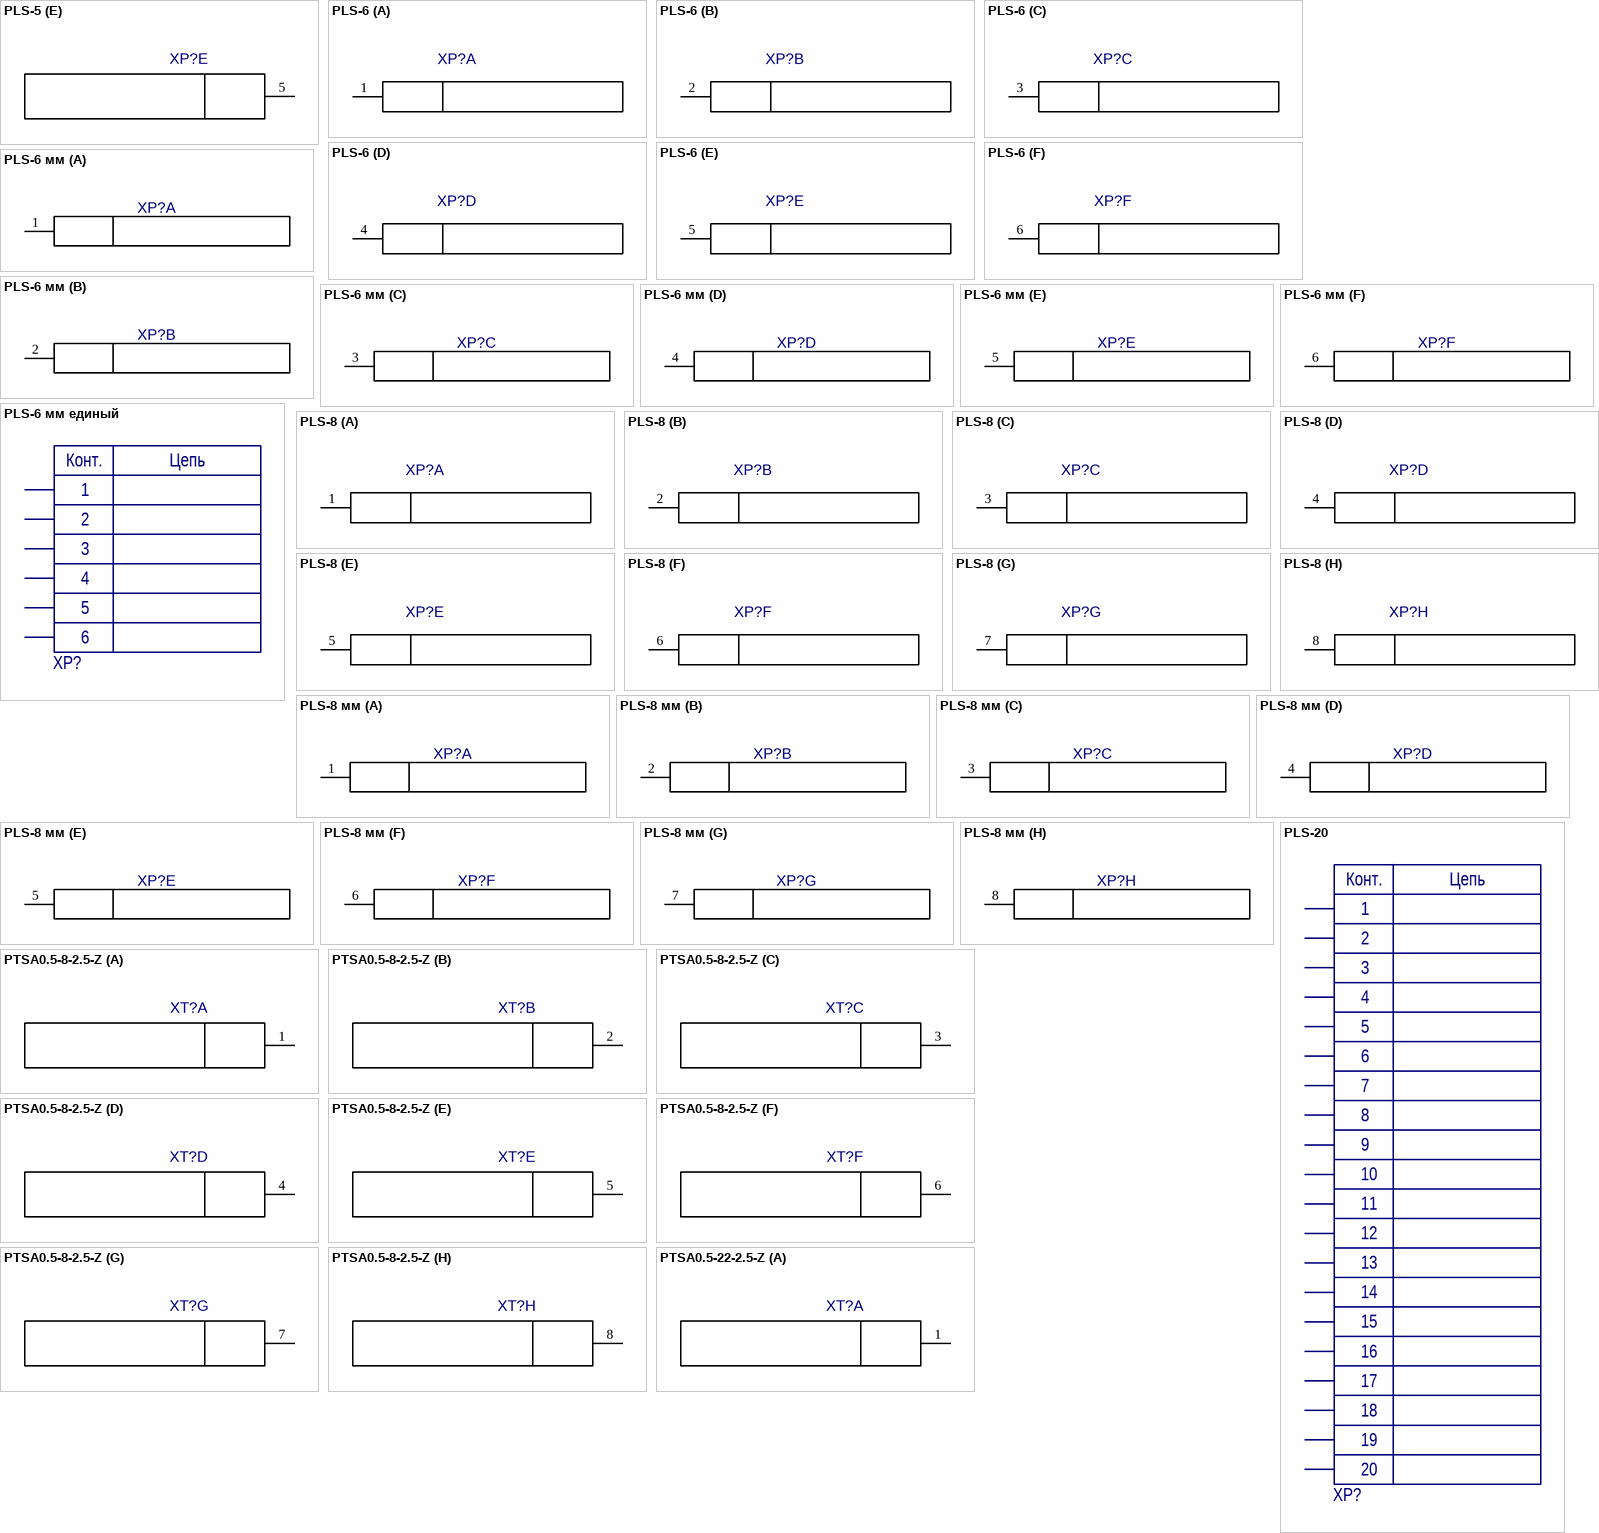
[diagram p22: symbols PLS-5 to PTSA0.5-22-2.5-Z]

## PLS-5
designator XP?  (value not drawn)
Value: *
footprint PLS-5
part A pins: 1
part B pins: 2
part C pins: 3
part D pins: 4
part E pins: 5

## PLS-6
designator XP?, comment PLS-5  (value not drawn)
Value: *
footprint PLS-6-v2
part A pins: 1
part B pins: 2
part C pins: 3
part D pins: 4
part E pins: 5
part F pins: 6

## PLS-6 мм
designator XP?, comment PLS-5  (value not drawn)
Value: *
footprint PLS-6-v2
part A pins: 1
part B pins: 2
part C pins: 3
part D pins: 4
part E pins: 5
part F pins: 6

## PLS-6 мм единый
designator XP?, comment PLS-6  (value not drawn)
Единое УГО на все контакты; Cell: *; ManufacturerPartNmber: PLS-6; Value: *; Tolerance: *; Current: *; Voltage: *; Power: *
footprint PLS-6
pins: 1, 2, 3, 4, 5, 6
text: Конт.; Цепь

## PLS-8
designator XP?, comment PLS-5  (value not drawn)
Value: *
footprint PLS-8
part A pins: 1
part B pins: 2
part C pins: 3
part D pins: 4
part E pins: 5
part F pins: 6
part G pins: 7
part H pins: 8

## PLS-8 мм
designator XP?, comment PLS-5  (value not drawn)
Value: *
footprint PLS-8
part A pins: 1
part B pins: 2
part C pins: 3
part D pins: 4
part E pins: 5
part F pins: 6
part G pins: 7
part H pins: 8

## PLS-20
designator XP?  (value not drawn)
Cell: *; ManufacturerPartNmber: PLS-20; Value: *; Tolerance: *; Current: *; Voltage: *; Power: *
footprint PLS-20
pins: 1, 2, 3, 4, 5, 6, 7, 8, 9, 10, 11, 12, 13, 14, 15, 16, 17, 18, 19, 20
text: Конт.; Цепь

## PTSA0.5-8-2.5-Z
designator XT?  (value not drawn)
Value: *
footprint PTSA0.5-8-2.5-Z
part A pins: 1
part B pins: 2
part C pins: 3
part D pins: 4
part E pins: 5
part F pins: 6
part G pins: 7
part H pins: 8